# Altium schematic symbol library Driver_LED.SchLib: 93 symbols (part 1 of 2)
Pins are listed as number, name and electrical type; pins without a type are passive.

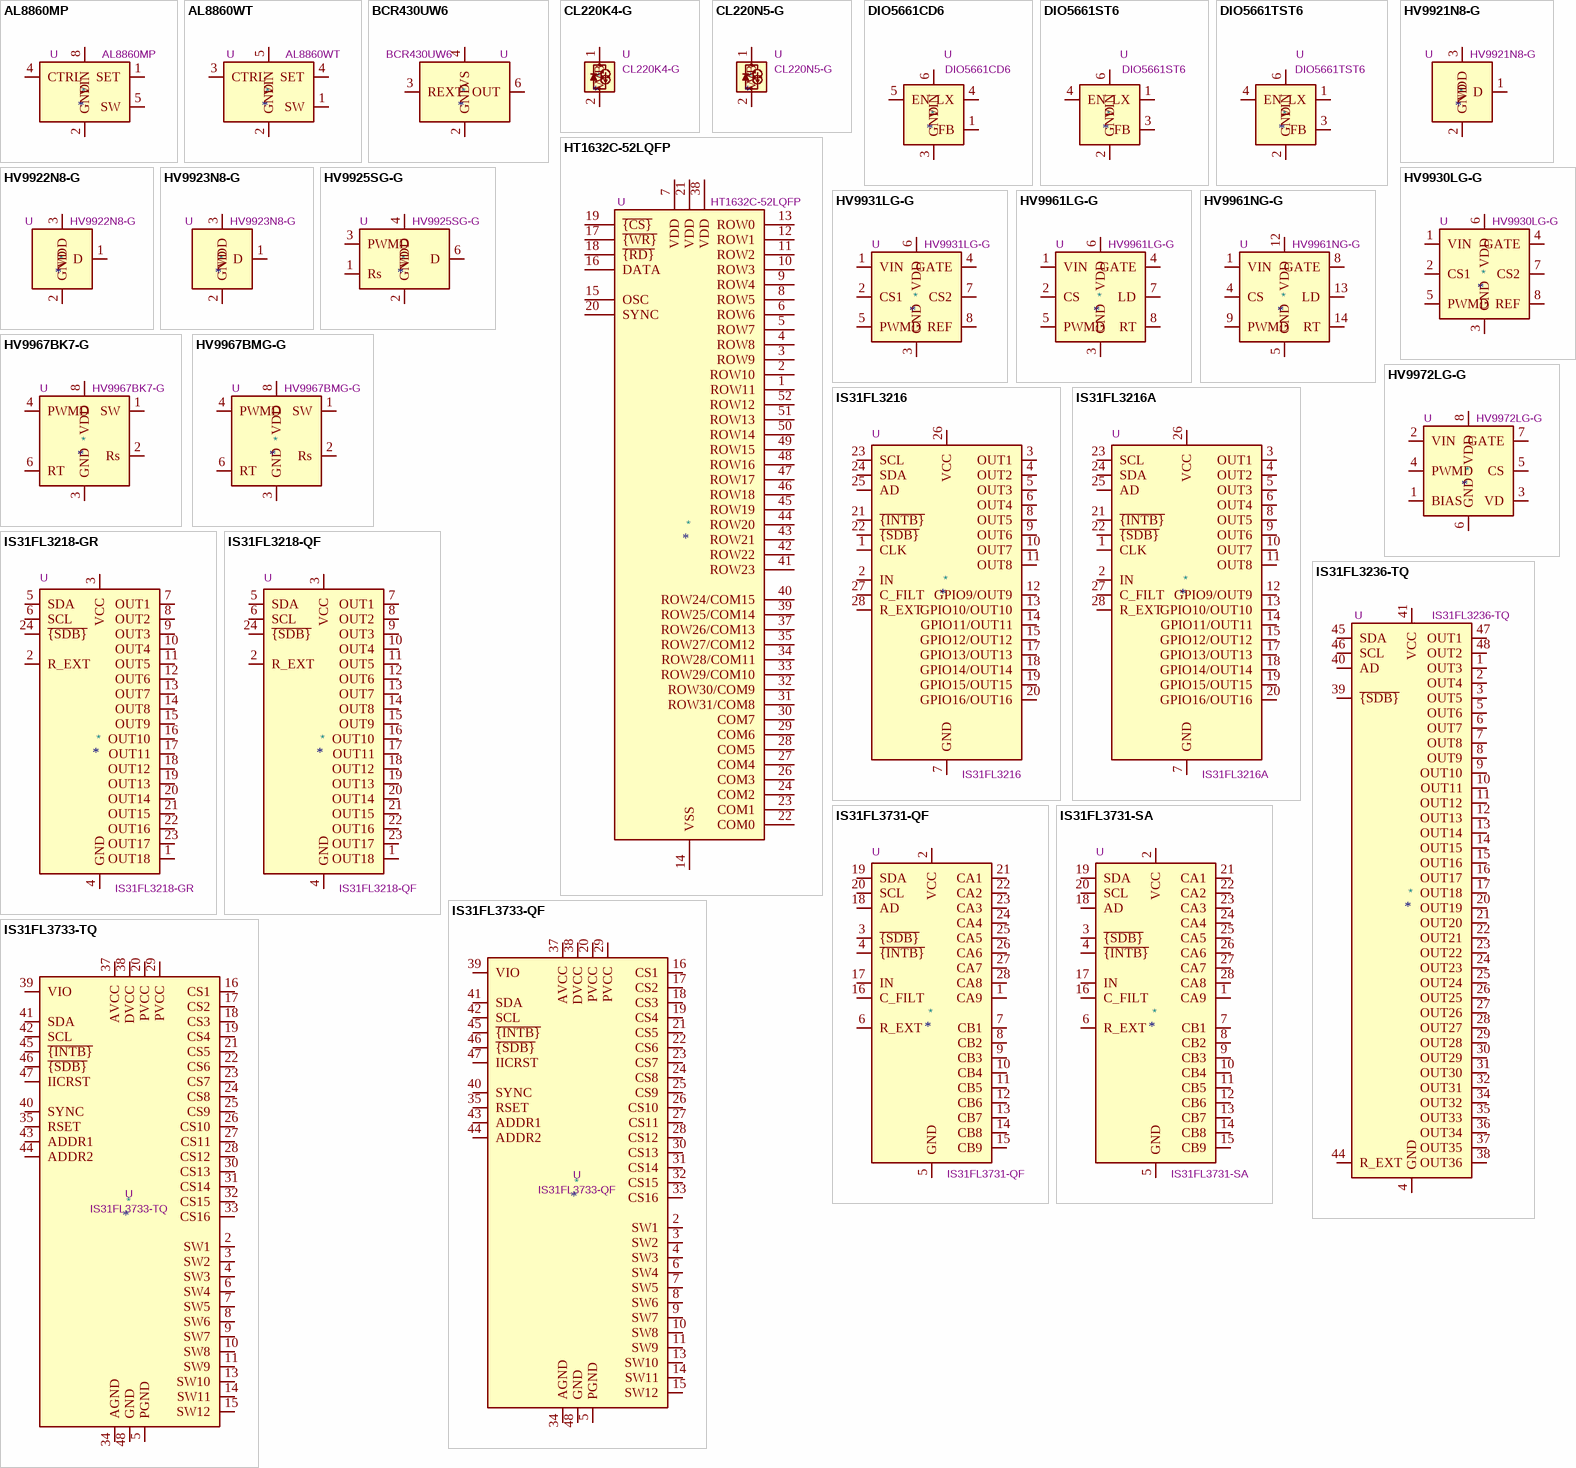
[diagram p0: symbols AL8860MP to IS31FL3733-TQ]

## AL8860MP
designator *  value AL8860MP  Reference: U
ki_keywords: LED Driver Buck Constant Current; ki_description: 40V 1.5A Constant Current Buck LED Driver IC, MSOP-8; ki_fp_filters: MSOP*1EP*3x3mm*P0.65mm*; Footprint: Package_SO:MSOP-8-1EP_3x3mm_P0.65mm_EP1.5x1.8mm; Datasheet: https://www.diodes.com/assets/Datasheets/AL8860.pdf
pins: 1 SET, 2 GND, 3 GND hidden, 4 CTRL, 5 SW, 6 SW hidden, 7 NC hidden, 8 VIN, 9 GND hidden

## AL8860WT
designator *  value AL8860WT  Reference: U
ki_keywords: LED Driver Buck Constant Current; ki_description: 40V 1.5A Constant Current Buck LED Driver IC, TSOT-23-5; ki_fp_filters: TSOT?23*; Footprint: Package_TO_SOT_SMD:TSOT-23-5; Datasheet: https://www.diodes.com/assets/Datasheets/AL8860.pdf
pins: 1 SW, 2 GND, 3 CTRL, 4 SET, 5 VIN

## BCR430UW6
designator *  value BCR430UW6  Reference: U
ki_keywords: LED driver constant current; ki_description: 100 mA adjustable constant current driver (linear), max 42V, SOT26 (SC-74); ki_fp_filters: SC?74*1.5x2.9mm?P0.95*; Footprint: Package_SO:SC-74-6_1.5x2.9mm_P0.95mm; Datasheet: https://www.diodes.com/assets/Datasheets/BCR430UW6.pdf
pins: 1 NC hidden, 2 GND, 3 REXT, 4 VS, 5 NC hidden, 6 OUT

## CL220K4-G
designator *  value CL220K4-G  Reference: U
ki_keywords: Constant Current LED Driver IC; ki_description: Temperature Compensated Constant Current LED IC, D-PAK; ki_fp_filters: TO?252*; Footprint: Package_TO_SOT_SMD:TO-252-2; Datasheet: http://ww1.microchip.com/downloads/en/DeviceDoc/20005413A.pdf
pins: 1 VA, 2 VB, 3 NC hidden

## CL220N5-G
designator *  value CL220N5-G  Reference: U
ki_keywords: Constant Current LED Driver IC; ki_description: Temperature Compensated Constant Current LED IC, TO-220; ki_fp_filters: TO?220*; Footprint: Package_TO_SOT_THT:TO-220-3_Vertical; Datasheet: http://ww1.microchip.com/downloads/en/DeviceDoc/20005413A.pdf
pins: 1 VA, 2 VB

## DIO5661CD6
designator *  value DIO5661CD6  Reference: U
ki_keywords: LED driver single; ki_description: 37V Step-up LED driver with PWM, 2.7-5.5Vin, 1.3A Iout max, DFN-6; ki_fp_filters: DFN*1EP*2x2mm*P0.65mm*; Footprint: Package_DFN_QFN:DFN-6-1EP_2x2mm_P0.65mm_EP1x1.6mm; Datasheet: http://www.dioo.com/uploads/product/20190311/e6c7f30c0fbe92fbfa6965c8ef1c5b19.pdf
pins: 1 FB, 2 hidden, 3 GND, 4 LX, 5 EN, 6 VIN, 7 GND hidden

## DIO5661ST6
designator *  value DIO5661ST6  Reference: U
ki_keywords: LED driver single; ki_description: 37V Step-up LED driver with PWM, 2.7-5.5Vin, 1.3A Iout max, SOT23-6; ki_fp_filters: SOT?23*; Footprint: Package_TO_SOT_SMD:SOT-23-6; Datasheet: http://www.dioo.com/uploads/product/20190311/e6c7f30c0fbe92fbfa6965c8ef1c5b19.pdf
pins: 1 LX, 2 GND, 3 FB, 4 EN, 5 hidden, 6 VIN

## DIO5661TST6
designator *  value DIO5661TST6  Reference: U
ki_keywords: LED driver single; ki_description: 37V Step-up LED driver with PWM, 2.7-5.5Vin, 1.3A Iout max, TSOT23-6; ki_fp_filters: TSOT?23*; Footprint: Package_TO_SOT_SMD:TSOT-23-6; Datasheet: http://www.dioo.com/uploads/product/20190311/e6c7f30c0fbe92fbfa6965c8ef1c5b19.pdf
pins: 1 LX, 2 GND, 3 FB, 4 EN, 5 hidden, 6 VIN

## HT1632C-52LQFP
designator *  value HT1632C-52LQFP  Reference: U
ki_keywords: LED Matrix Driver; ki_description: LED Matrix Driver, 32×8 or 24×16, 52-LQFP; ki_fp_filters: LQFP*14x14mm*P1mm*; Footprint: Package_QFP:LQFP-52_14x14mm_P1mm; Datasheet: http://www.holtek.com/documents/10179/116711/HT1632Cv170.pdf
pins: 1 ROW11, 2 ROW10, 3 ROW9, 4 ROW8, 5 ROW7, 6 ROW6, 7 VDD, 8 ROW5, 9 ROW4, 10 ROW3, 11 ROW2, 12 ROW1, 13 ROW0, 14 VSS, 15 OSC, 16 DATA, 17 ~{{WR}}, 18 ~{{RD}}, 19 ~{{CS}}, 20 SYNC, 21 VDD, 22 COM0, 23 COM1, 24 COM2, 25 VSS hidden, 26 COM3, 27 COM4, 28 COM5, 29 COM6, 30 COM7, 31 ROW31/COM8, 32 ROW30/COM9, 33 ROW29/COM10, 34 ROW28/COM11, 35 ROW27/COM12, 36 VSS hidden, 37 ROW26/COM13, 38 VDD, 39 ROW25/COM14, 40 ROW24/COM15, 41 ROW23, 42 ROW22, 43 ROW21, 44 ROW20, 45 ROW19, 46 ROW18, 47 ROW17, 48 ROW16, 49 ROW15, 50 ROW14, 51 ROW13, 52 ROW12

## HV9921N8-G
designator *  value HV9921N8-G  Reference: U
ki_keywords: CC LED Driver High Voltage; ki_description: 3pin Constant Current 20mA LED Driver, SOT89; ki_fp_filters: SOT?89*; Footprint: Package_TO_SOT_SMD:SOT-89-3; Datasheet: http://ww1.microchip.com/downloads/en/DeviceDoc/20005311A.pdf
pins: 1 D, 2 GND, 3 VDD

## HV9922N8-G
designator *  value HV9922N8-G  Reference: U
ki_keywords: CC LED Driver High Voltage; ki_description: 3pin Constant Current 50mA LED Driver, SOT89; ki_fp_filters: SOT?89*; Footprint: Package_TO_SOT_SMD:SOT-89-3; Datasheet: http://ww1.microchip.com/downloads/en/DeviceDoc/20005311A.pdf
pins: 1 D, 2 GND, 3 VDD

## HV9923N8-G
designator *  value HV9923N8-G  Reference: U
ki_keywords: CC LED Driver High Voltage; ki_description: 3pin Constant Current 30mA LED Driver, SOT89; ki_fp_filters: SOT?89*; Footprint: Package_TO_SOT_SMD:SOT-89-3; Datasheet: http://ww1.microchip.com/downloads/en/DeviceDoc/20005311A.pdf
pins: 1 D, 2 GND, 3 VDD

## HV9925SG-G
designator *  value HV9925SG-G  Reference: U
ki_keywords: Programmable Current LED Lamp Driver High Voltage; ki_description: Programmable Current LED Lamp Driver, SO8 w/Heat Slug; ki_fp_filters: SOIC*3.9x4.9mm*P1.27mm*; Footprint: Package_SO:SOIC-8_3.9x4.9mm_P1.27mm; Datasheet: http://ww1.microchip.com/downloads/en/DeviceDoc/hv9925.pdf
pins: 1 Rs, 2 GND, 3 PWMD, 4 VDD, 5 NC hidden, 6 D, 7 D hidden, 8 D hidden

## HV9930LG-G
designator *  value HV9930LG-G  Reference: U
ki_keywords: Buck-Boost LED Lamp Driver High Voltage; ki_description: Boost-Buck LED Lamp Driver, SO8; ki_fp_filters: SOIC*3.9x4.9mm*P1.27mm*; Footprint: Package_SO:SOIC-8_3.9x4.9mm_P1.27mm; Datasheet: http://ww1.microchip.com/downloads/en/DeviceDoc/hv9930.pdf
pins: 1 VIN, 2 CS1, 3 GND, 4 GATE, 5 PWMD, 6 VDD, 7 CS2, 8 REF

## HV9931LG-G
designator *  value HV9931LG-G  Reference: U
ki_keywords: Buck-Boost LED Lamp Driver High Voltage PFC; ki_description: PFC Boost-Buck LED Lamp Driver, SO8; ki_fp_filters: SOIC*3.9x4.9mm*P1.27mm*; Footprint: Package_SO:SOIC-8_3.9x4.9mm_P1.27mm; Datasheet: http://ww1.microchip.com/downloads/en/DeviceDoc/hv9931.pdf
pins: 1 VIN, 2 CS1, 3 GND, 4 GATE, 5 PWMD, 6 VDD, 7 CS2, 8 REF

## HV9961LG-G
designator *  value HV9961LG-G  Reference: U
ki_keywords: Buck LED Lamp Driver High Voltage Average CC; ki_description: Buck LED Lamp Driver Average-Mode Constant Current, SO8; ki_fp_filters: SOIC*3.9x4.9mm*P1.27mm*; Footprint: Package_SO:SOIC-8_3.9x4.9mm_P1.27mm; Datasheet: http://ww1.microchip.com/downloads/en/DeviceDoc/20005588A.pdf
pins: 1 VIN, 2 CS, 3 GND, 4 GATE, 5 PWMD, 6 VDD, 7 LD, 8 RT

## HV9961NG-G
designator *  value HV9961NG-G  Reference: U
ki_keywords: Buck LED Lamp Driver High Voltage Average CC; ki_description: Buck LED Lamp Driver Average-Mode Constant Current, SO16; ki_fp_filters: SOIC*3.9x9.9mm*P1.27mm*; Footprint: Package_SO:SOIC-16_3.9x9.9mm_P1.27mm; Datasheet: http://ww1.microchip.com/downloads/en/DeviceDoc/20005588A.pdf
pins: 1 VIN, 2 NC hidden, 3 NC hidden, 4 CS, 5 GND, 6 NC hidden, 7 NC hidden, 8 GATE, 9 PWMD, 10 NC hidden, 11 NC hidden, 12 VDD, 13 LD, 14 RT, 15 NC hidden, 16 NC hidden

## HV9967BK7-G
designator *  value HV9967BK7-G  Reference: U
ki_keywords: Buck LED Lamp Driver Low Voltage Average CC; ki_description: Buck LED Lamp Driver Average-Mode Constant Current, DFN8 (3x3mm); ki_fp_filters: DFN*1EP*3x3mm*P0.65mm*; Footprint: Package_DFN_QFN:DFN-8-1EP_3x3mm_P0.65mm_EP1.55x2.4mm; Datasheet: http://ww1.microchip.com/downloads/en/DeviceDoc/hv9967b.pdf
pins: 1 SW, 2 Rs, 3 GND, 4 PWMD, 6 RT, 7 GND hidden, 8 VDD, 9 GND hidden

## HV9967BMG-G
designator *  value HV9967BMG-G  Reference: U
ki_keywords: Buck LED Lamp Driver Low Voltage Average CC; ki_description: Buck LED Lamp Driver Average-Mode Constant Current, MSOP8; ki_fp_filters: MSOP*3x3mm*P0.65mm*; Footprint: Package_SO:MSOP-8_3x3mm_P0.65mm; Datasheet: http://ww1.microchip.com/downloads/en/devicedoc/hv9967b.pdf
pins: 1 SW, 2 Rs, 3 GND, 4 PWMD, 6 RT, 7 GND hidden, 8 VDD

## HV9972LG-G
designator *  value HV9972LG-G  Reference: U
ki_keywords: Isolated LED Lamp Driver High Voltage CC; ki_description: Isolated LED Lamp Driver Constant Current, SO8; ki_fp_filters: SOIC*3.9x4.9mm*P1.27mm*; Footprint: Package_SO:SOIC-8_3.9x4.9mm_P1.27mm; Datasheet: https://www.mouser.com/ds/2/268/HV9972-272498-1181261.pdf
pins: 1 BIAS, 2 VIN, 3 VD, 4 PWMD, 5 CS, 6 GND, 7 GATE, 8 VDD

## IS31FL3216
designator *  value IS31FL3216  Reference: U
ki_keywords: led pwm audio; ki_description: 16 channel LED controller with audio modulation mode, QFN-28; ki_fp_filters: QFN*1EP*4x4mm*P0.4mm*; Footprint: Package_DFN_QFN:QFN-28-1EP_4x4mm_P0.4mm_EP2.4x2.4mm; Datasheet: http://www.issi.com/WW/pdf/IS31FL3216.pdf
pins: 1 CLK, 2 IN, 3 OUT1, 4 OUT2, 5 OUT3, 6 OUT4, 7 GND, 8 OUT5, 9 OUT6, 10 OUT7, 11 OUT8, 12 GPIO9/OUT9, 13 GPIO10/OUT10, 14 GPIO11/OUT11, 15 GPIO12/OUT12, 16 GND hidden, 17 GPIO13/OUT13, 18 GPIO14/OUT14, 19 GPIO15/OUT15, 20 GPIO16/OUT16, 21 ~{{INTB}}, 22 ~{{SDB}}, 23 SCL, 24 SDA, 25 AD, 26 VCC, 27 C_FILT, 28 R_EXT, 29 GND hidden

## IS31FL3216A
designator *  value IS31FL3216A  Reference: U
ki_keywords: led pwm audio; ki_description: 16 channel LED controller with audio modulation mode, QFN-28; ki_fp_filters: QFN*1EP*4x4mm*P0.4mm*; Footprint: Package_DFN_QFN:QFN-28-1EP_4x4mm_P0.4mm_EP2.4x2.4mm; Datasheet: http://www.issi.com/WW/pdf/IS31FL3216A.pdf
pins: 1 CLK, 2 IN, 3 OUT1, 4 OUT2, 5 OUT3, 6 OUT4, 7 GND, 8 OUT5, 9 OUT6, 10 OUT7, 11 OUT8, 12 GPIO9/OUT9, 13 GPIO10/OUT10, 14 GPIO11/OUT11, 15 GPIO12/OUT12, 16 GND hidden, 17 GPIO13/OUT13, 18 GPIO14/OUT14, 19 GPIO15/OUT15, 20 GPIO16/OUT16, 21 ~{{INTB}}, 22 ~{{SDB}}, 23 SCL, 24 SDA, 25 AD, 26 VCC, 27 C_FILT, 28 R_EXT, 29 GND hidden

## IS31FL3218-GR
designator *  value IS31FL3218-GR  Reference: U
ki_keywords: led matrix pwm; ki_description: 18 LED matrix driver with 8-bit PWM, SOP-24; ki_fp_filters: SOP*7.5x15.4mm*P1.27mm*; Footprint: Package_SO:SOP-24_7.5x15.4mm_P1.27mm; Datasheet: http://www.issi.com/WW/pdf/31FL3218.pdf
pins: 1 OUT18, 2 R_EXT, 3 VCC, 4 GND, 5 SDA, 6 SCL, 7 OUT1, 8 OUT2, 9 OUT3, 10 OUT4, 11 OUT5, 12 OUT6, 13 OUT7, 14 OUT8, 15 OUT9, 16 OUT10, 17 OUT11, 18 OUT12, 19 OUT13, 20 OUT14, 21 OUT15, 22 OUT16, 23 OUT17, 24 ~{{SDB}}

## IS31FL3218-QF
designator *  value IS31FL3218-QF  Reference: U
ki_keywords: led matrix pwm; ki_description: 18 LED matrix driver with 8-bit PWM, QFN-24; ki_fp_filters: QFN*1EP*4x4mm*P0.5mm*; Footprint: Package_DFN_QFN:QFN-24-1EP_4x4mm_P0.5mm_EP2.7x2.7mm; Datasheet: http://www.issi.com/WW/pdf/31FL3218.pdf
pins: 1 OUT18, 2 R_EXT, 3 VCC, 4 GND, 5 SDA, 6 SCL, 7 OUT1, 8 OUT2, 9 OUT3, 10 OUT4, 11 OUT5, 12 OUT6, 13 OUT7, 14 OUT8, 15 OUT9, 16 OUT10, 17 OUT11, 18 OUT12, 19 OUT13, 20 OUT14, 21 OUT15, 22 OUT16, 23 OUT17, 24 ~{{SDB}}, 25 GND hidden

## IS31FL3236-TQ
designator *  value IS31FL3236-TQ  Reference: U
ki_keywords: led matrix pwm; ki_description: 36 LED matrix driver with 8-bit PWM, eTQFP-48; ki_fp_filters: TQFP*1EP*7x7mm*P0.5mm*; Footprint: Package_QFP:TQFP-48-1EP_7x7mm_P0.5mm_EP4.11x4.11mm; Datasheet: https://www.lumissil.com/assets/pdf/core/IS31FL3236_DS.pdf
pins: 1 OUT3, 2 OUT4, 3 OUT5, 4 GND, 5 OUT6, 6 OUT7, 7 OUT8, 8 OUT9, 9 OUT10, 10 OUT11, 11 OUT12, 12 OUT13, 13 OUT14, 14 OUT15, 15 OUT16, 16 OUT17, 17 OUT18, 18 GND hidden, 19 GND hidden, 20 OUT19, 21 OUT20, 22 OUT21, 23 OUT22, 24 OUT23, 25 OUT24, 26 OUT25, 27 OUT26, 28 OUT27, 29 OUT28, 30 OUT29, 31 OUT30, 32 OUT31, 33 GND hidden, 34 OUT32, 35 OUT33, 36 OUT34, 37 OUT35, 38 OUT36, 39 ~{{SDB}}, 40 AD, 41 VCC, 42 GND hidden, 43 GND hidden, 44 R_EXT, 45 SDA, 46 SCL, 47 OUT1, 48 OUT2, 49 GND hidden

## IS31FL3731-QF
designator *  value IS31FL3731-QF  Reference: U
ki_keywords: led matrix pwm; ki_description: 9x16 LED matrix driver with 8-bit PWM and breathing, QFN-28; ki_fp_filters: QFN*1EP*4x4mm*P0.4mm*; Footprint: Package_DFN_QFN:QFN-28-1EP_4x4mm_P0.4mm_EP2.3x2.3mm; Datasheet: http://www.issi.com/WW/pdf/31FL3731.pdf
pins: 1 CA9, 2 VCC, 3 ~{{SDB}}, 4 ~{{INTB}}, 5 GND, 6 R_EXT, 7 CB1, 8 CB2, 9 CB3, 10 CB4, 11 CB5, 12 CB6, 13 CB7, 14 CB8, 15 CB9, 16 C_FILT, 17 IN, 18 AD, 19 SDA, 20 SCL, 21 CA1, 22 CA2, 23 CA3, 24 CA4, 25 CA5, 26 CA6, 27 CA7, 28 CA8, 29 GND hidden

## IS31FL3731-SA
designator *  value IS31FL3731-SA  Reference: U
ki_keywords: led matrix pwm; ki_description: 9x16 LED matrix driver with 8-bit PWM and breathing, SSOP-28; ki_fp_filters: SSOP*5.3x10.2mm*P0.65mm*; Footprint: Package_SO:SSOP-28_5.3x10.2mm_P0.65mm; Datasheet: http://www.issi.com/WW/pdf/31FL3731.pdf
pins: 1 CA9, 2 VCC, 3 ~{{SDB}}, 4 ~{{INTB}}, 5 GND, 6 R_EXT, 7 CB1, 8 CB2, 9 CB3, 10 CB4, 11 CB5, 12 CB6, 13 CB7, 14 CB8, 15 CB9, 16 C_FILT, 17 IN, 18 AD, 19 SDA, 20 SCL, 21 CA1, 22 CA2, 23 CA3, 24 CA4, 25 CA5, 26 CA6, 27 CA7, 28 CA8

## IS31FL3733-QF
designator *  value IS31FL3733-QF  Reference: U
ki_keywords: led matrix pwm; ki_description: 12x16 LED matrix driver with 8-bit PWM and breathing, QFN-48; ki_fp_filters: QFN*1EP*6x6mm*P0.4mm*; Footprint: Package_DFN_QFN:QFN-48-1EP_6x6mm_P0.4mm_EP4.2x4.2mm; Datasheet: http://www.issi.com/WW/pdf/IS31FL3733.pdf
pins: 1 NC hidden, 2 SW1, 3 SW2, 4 SW3, 5 PGND, 6 SW4, 7 SW5, 8 SW6, 9 SW7, 10 SW8, 11 SW9, 12 PGND hidden, 13 SW10, 14 SW11, 15 SW12, 16 CS1, 17 CS2, 18 CS3, 19 CS4, 20 PVCC, 21 CS5, 22 CS6, 23 CS7, 24 CS8, 25 CS9, 26 CS10, 27 CS11, 28 CS12, 29 PVCC, 30 CS13, 31 CS14, 32 CS15, 33 CS16, 34 AGND, 35 RSET, 36 NC hidden, 37 AVCC, 38 DVCC, 39 VIO, 40 SYNC, 41 SDA, 42 SCL, 43 ADDR1, 44 ADDR2, 45 ~{{INTB}}, 46 ~{{SDB}}, 47 IICRST, 48 GND, 49 GND hidden

## IS31FL3733-TQ
designator *  value IS31FL3733-TQ  Reference: U
ki_keywords: led matrix pwm; ki_description: 12x16 LED matrix driver with 8-bit PWM and breathing, TQFP-48; ki_fp_filters: TQFP*1EP*7x7mm*P0.5mm*; Footprint: Package_QFP:TQFP-48-1EP_7x7mm_P0.5mm_EP5x5mm; Datasheet: http://www.issi.com/WW/pdf/IS31FL3733.pdf
pins: 1 NC hidden, 2 SW1, 3 SW2, 4 SW3, 5 PGND, 6 SW4, 7 SW5, 8 SW6, 9 SW7, 10 SW8, 11 SW9, 12 PGND hidden, 13 SW10, 14 SW11, 15 SW12, 16 CS1, 17 CS2, 18 CS3, 19 CS4, 20 PVCC, 21 CS5, 22 CS6, 23 CS7, 24 CS8, 25 CS9, 26 CS10, 27 CS11, 28 CS12, 29 PVCC, 30 CS13, 31 CS14, 32 CS15, 33 CS16, 34 AGND, 35 RSET, 36 NC hidden, 37 AVCC, 38 DVCC, 39 VIO, 40 SYNC, 41 SDA, 42 SCL, 43 ADDR1, 44 ADDR2, 45 ~{{INTB}}, 46 ~{{SDB}}, 47 IICRST, 48 GND, 49 GND hidden

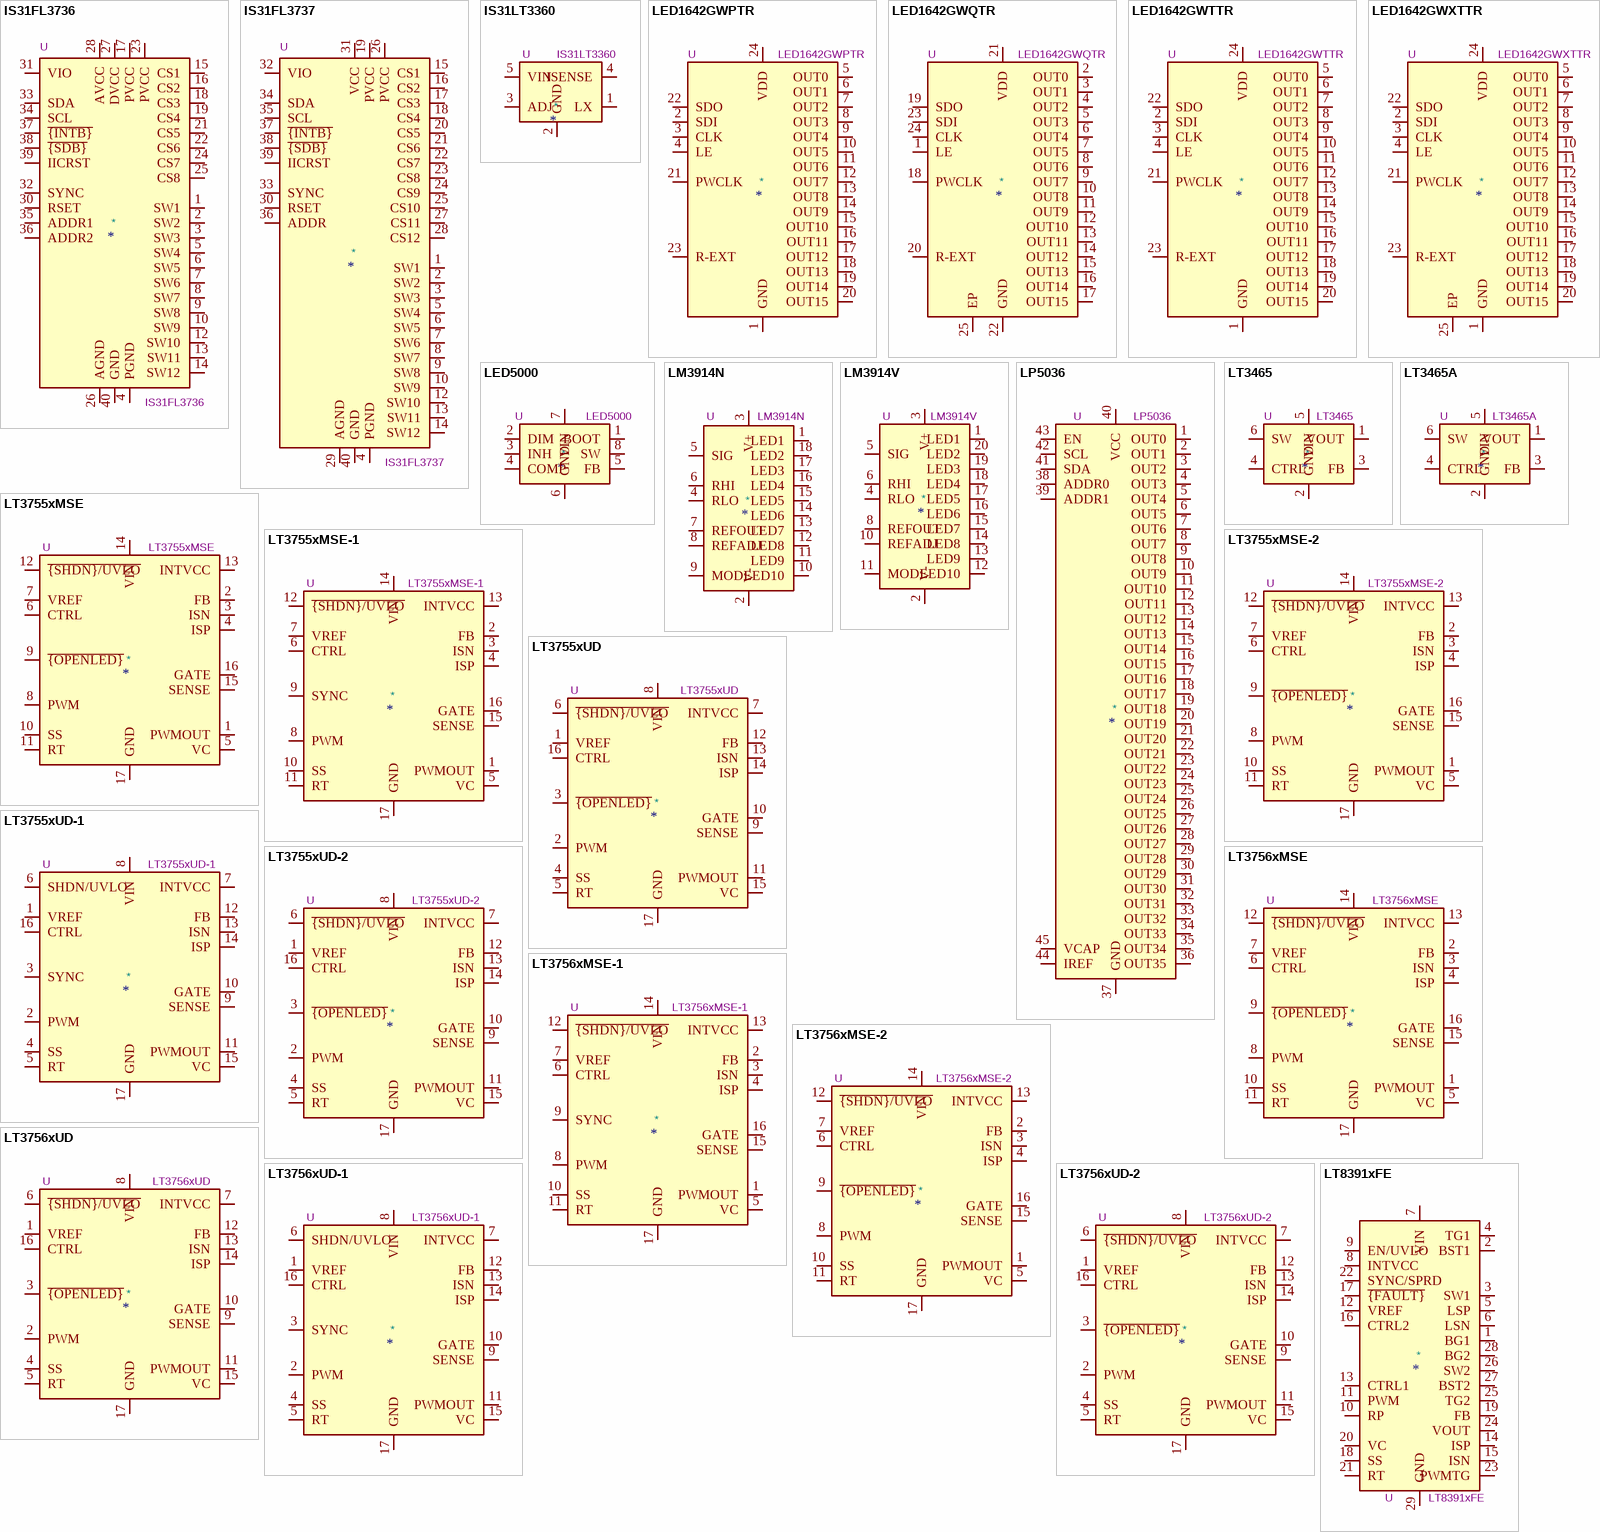
[diagram p1: symbols IS31FL3736 to LT8391xFE]

## IS31FL3736
designator *  value IS31FL3736  Reference: U
ki_keywords: led matrix pwm; ki_description: 12x8 LED matrix driver with 8-bit PWM and breathing, QFN-40; ki_fp_filters: QFN*1EP*5x5mm*P0.4mm*; Footprint: Package_DFN_QFN:QFN-40-1EP_5x5mm_P0.4mm_EP3.8x3.8mm; Datasheet: http://www.issi.com/WW/pdf/31FL3736.pdf
pins: 1 SW1, 2 SW2, 3 SW3, 4 PGND, 5 SW4, 6 SW5, 7 SW6, 8 SW7, 9 SW8, 10 SW9, 11 PGND hidden, 12 SW10, 13 SW11, 14 SW12, 15 CS1, 16 CS2, 17 PVCC, 18 CS3, 19 CS4, 20 NC hidden, 21 CS5, 22 CS6, 23 PVCC, 24 CS7, 25 CS8, 26 AGND, 27 DVCC, 28 AVCC, 29 NC hidden, 30 RSET, 31 VIO, 32 SYNC, 33 SDA, 34 SCL, 35 ADDR1, 36 ADDR2, 37 ~{{INTB}}, 38 ~{{SDB}}, 39 IICRST, 40 GND, 41 GND hidden

## IS31FL3737
designator *  value IS31FL3737  Reference: U
ki_keywords: led matrix pwm; ki_description: 12x12 LED matrix driver with 8-bit PWM and breathing, QFN-40; ki_fp_filters: QFN*1EP*5x5mm*P0.4mm*; Footprint: Package_DFN_QFN:QFN-40-1EP_5x5mm_P0.4mm_EP3.8x3.8mm; Datasheet: http://www.issi.com/WW/pdf/31FL3737.pdf
pins: 1 SW1, 2 SW2, 3 SW3, 4 PGND, 5 SW4, 6 SW5, 7 SW6, 8 SW7, 9 SW8, 10 SW9, 11 PGND hidden, 12 SW10, 13 SW11, 14 SW12, 15 CS1, 16 CS2, 17 CS3, 18 CS4, 19 PVCC, 20 CS5, 21 CS6, 22 CS7, 23 CS8, 24 CS9, 25 CS10, 26 PVCC, 27 CS11, 28 CS12, 29 AGND, 30 RSET, 31 VCC, 32 VIO, 33 SYNC, 34 SDA, 35 SCL, 36 ADDR, 37 ~{{INTB}}, 38 ~{{SDB}}, 39 IICRST, 40 GND, 41 GND hidden

## IS31LT3360
designator *  value IS31LT3360  Reference: U
ki_keywords: Switching LED driver; ki_description: Constant current  LED driver, internal switch, up to 40V/1.2A, SOT-89-5; ki_fp_filters: SOT?89*; Footprint: Package_TO_SOT_SMD:SOT-89-5; Datasheet: http://www.issi.com/WW/pdf/31LT3360.pdf
pins: 1 LX, 2 GND, 3 ADJ, 4 ISENSE, 5 VIN

## LED1642GWPTR
designator *  value LED1642GWPTR  Reference: U
ki_keywords: PWM LED driver error detection brightness QSOP-24; ki_description: 16-channel LED driver with error detection, current gain control and 12/16 bit PWM brightness control, QSOP-24; ki_fp_filters: QSOP*3.9x8.7mm*P0.635mm*; Footprint: Package_SO:QSOP-24_3.9x8.7mm_P0.635mm; Datasheet: https://www.st.com/resource/en/datasheet/led1642gw.pdf
pins: 1 GND, 2 SDI, 3 CLK, 4 LE, 5 OUT0, 6 OUT1, 7 OUT2, 8 OUT3, 9 OUT4, 10 OUT5, 11 OUT6, 12 OUT7, 13 OUT8, 14 OUT9, 15 OUT10, 16 OUT11, 17 OUT12, 18 OUT13, 19 OUT14, 20 OUT15, 21 PWCLK, 22 SDO, 23 R-EXT, 24 VDD

## LED1642GWQTR
designator *  value LED1642GWQTR  Reference: U
ki_keywords: PWM LED driver error detection brightness QFN-24; ki_description: 16-channel LED driver with error detection, current gain control and 12/16 bit PWM brightness control, QFN-24; ki_fp_filters: QFN*1EP*4x4mm*P0.5mm*; Footprint: Package_DFN_QFN:QFN-24-1EP_4x4mm_P0.5mm_EP2.15x2.15mm; Datasheet: https://www.st.com/resource/en/datasheet/led1642gw.pdf
pins: 1 LE, 2 OUT0, 3 OUT1, 4 OUT2, 5 OUT3, 6 OUT4, 7 OUT5, 8 OUT6, 9 OUT7, 10 OUT8, 11 OUT9, 12 OUT10, 13 OUT11, 14 OUT12, 15 OUT13, 16 OUT14, 17 OUT15, 18 PWCLK, 19 SDO, 20 R-EXT, 21 VDD, 22 GND, 23 SDI, 24 CLK, 25 EP

## LED1642GWTTR
designator *  value LED1642GWTTR  Reference: U
ki_keywords: PWM LED driver error detection brightness TSSOP-24; ki_description: 16-channel LED driver with error detection, current gain control and 12/16 bit PWM brightness control, TSSOP-24; ki_fp_filters: TSSOP*4.4x7.8mm*P0.65mm*; Footprint: Package_SO:TSSOP-24_4.4x7.8mm_P0.65mm; Datasheet: https://www.st.com/resource/en/datasheet/led1642gw.pdf
pins: 1 GND, 2 SDI, 3 CLK, 4 LE, 5 OUT0, 6 OUT1, 7 OUT2, 8 OUT3, 9 OUT4, 10 OUT5, 11 OUT6, 12 OUT7, 13 OUT8, 14 OUT9, 15 OUT10, 16 OUT11, 17 OUT12, 18 OUT13, 19 OUT14, 20 OUT15, 21 PWCLK, 22 SDO, 23 R-EXT, 24 VDD

## LED1642GWXTTR
designator *  value LED1642GWXTTR  Reference: U
ki_keywords: PWM LED driver error detection brightness TSSOP-24; ki_description: 16-channel LED driver with error detection, current gain control and 12/16 bit PWM brightness control, TSSOP-24; ki_fp_filters: TSSOP*1EP*4.4x7.8mm*P0.65mm*; Footprint: Package_SO:TSSOP-24-1EP_4.4x7.8mm_P0.65mm_EP3.2x5mm; Datasheet: https://www.st.com/resource/en/datasheet/led1642gw.pdf
pins: 1 GND, 2 SDI, 3 CLK, 4 LE, 5 OUT0, 6 OUT1, 7 OUT2, 8 OUT3, 9 OUT4, 10 OUT5, 11 OUT6, 12 OUT7, 13 OUT8, 14 OUT9, 15 OUT10, 16 OUT11, 17 OUT12, 18 OUT13, 19 OUT14, 20 OUT15, 21 PWCLK, 22 SDO, 23 R-EXT, 24 VDD, 25 EP

## LED5000
designator *  value LED5000  Reference: U
ki_keywords: LED buck driver; ki_description: 3A monolithic step-down current source with dimming, HSOP-8; ki_fp_filters: HSOP*1EP*3.9x4.9mm*P1.27mm*; Footprint: Package_SO:HSOP-8-1EP_3.9x4.9mm_P1.27mm_EP2.41x3.1mm; Datasheet: https://www.st.com/resource/en/datasheet/led5000.pdf
pins: 1 BOOT, 2 DIM, 3 INH, 4 COMP, 5 FB, 6 GND, 7 VIN, 8 SW, 9 GND hidden

## LM3914N
designator *  value LM3914N  Reference: U
ki_keywords: LED driver bar dot; ki_description: 10 LED Dot/Bar Display Driver, DIP-18; ki_fp_filters: DIP*W7.62mm*; Footprint: Package_DIP:DIP-18_W7.62mm; Datasheet: https://www.ti.com/lit/ds/symlink/lm3914.pdf
pins: 1 LED1, 2 V-, 3 V+, 4 RLO, 5 SIG, 6 RHI, 7 REFOUT, 8 REFADJ, 9 MODE, 10 LED10, 11 LED9, 12 LED8, 13 LED7, 14 LED6, 15 LED5, 16 LED4, 17 LED3, 18 LED2

## LM3914V
designator *  value LM3914V  Reference: U
ki_keywords: LED driver bar dot; ki_description: 10 LED Dot/Bar Display Driver, PLCC-20; ki_fp_filters: PLCC*; Footprint: Package_LCC:PLCC-20; Datasheet: https://www.ti.com/lit/ds/symlink/lm3914.pdf
pins: 1 LED1, 2 V-, 3 V+, 4 RLO, 5 SIG, 6 RHI, 7 NC hidden, 8 REFOUT, 9 NC hidden, 10 REFADJ, 11 MODE, 12 LED10, 13 LED9, 14 LED8, 15 LED7, 16 LED6, 17 LED5, 18 LED4, 19 LED3, 20 LED2

## LP5036
designator *  value LP5036  Reference: U
ki_keywords: PWM LED driver I2C; ki_description: 36-Channel 12-Bit PWM Ultra-low Quiescent Current I2C RGB LED Driver; ki_fp_filters: VQFN?46?1EP?5x6mm?P0.4mm?EP2.8x3.8mm*; Footprint: Package_DFN_QFN:VQFN-46-1EP_5x6mm_P0.4mm_EP2.8x3.8mm; Datasheet: http://www.ti.com/lit/ds/symlink/lp5036.pdf
pins: 1 OUT0, 2 OUT1, 3 OUT2, 4 OUT3, 5 OUT4, 6 OUT5, 7 OUT6, 8 OUT7, 9 OUT8, 10 OUT9, 11 OUT10, 12 OUT11, 13 OUT12, 14 OUT13, 15 OUT14, 16 OUT15, 17 OUT16, 18 OUT17, 19 OUT18, 20 OUT19, 21 OUT20, 22 OUT21, 23 OUT22, 24 OUT23, 25 OUT24, 26 OUT25, 27 OUT26, 28 OUT27, 29 OUT28, 30 OUT29, 31 OUT30, 32 OUT31, 33 OUT32, 34 OUT33, 35 OUT34, 36 OUT35, 37 GND, 38 ADDR0, 39 ADDR1, 40 VCC, 41 SDA, 42 SCL, 43 EN, 44 IREF, 45 VCAP, 46 GND hidden, 47 GND hidden

## LT3465
designator *  value LT3465  Reference: U
ki_keywords: Switching LED driver; ki_description: 1.2MHz White LED Drivers with Built-in Schottky, ThinSOT-23-6; ki_fp_filters: TSOT?23*; Footprint: Package_TO_SOT_SMD:TSOT-23-6; Datasheet: https://www.analog.com/media/en/technical-documentation/data-sheets/3465fa.pdf
pins: 1 VOUT, 2 GND, 3 FB, 4 CTRL, 5 VIN, 6 SW

## LT3465A
designator *  value LT3465A  Reference: U
ki_keywords: Switching LED driver; ki_description: 2.4MHz White LED Drivers with Built-in Schottky in ThinSOT; ki_fp_filters: TSOT?23*; Footprint: Package_TO_SOT_SMD:TSOT-23-6; Datasheet: https://www.analog.com/media/en/technical-documentation/data-sheets/3465fa.pdf
pins: 1 VOUT, 2 GND, 3 FB, 4 CTRL, 5 VIN, 6 SW

## LT3755xMSE
designator *  value LT3755xMSE  Reference: U
ki_keywords: Boost Buck Buck-Boost SEPIC Flyback; ki_description: 40 Vin, 75 Vout, DC/DC LED Controllers, Hysteresis Open led Status pin, MSOP-16; ki_fp_filters: MSOP*3x4mm*P0.5mm*; Footprint: Package_SO:MSOP-16-1EP_3x4mm_P0.5mm_EP1.65x2.85mm; Datasheet: https://www.analog.com/media/en/technical-documentation/data-sheets/37551fd.pdf
pins: 1 PWMOUT, 2 FB, 3 ISN, 4 ISP, 5 VC, 6 CTRL, 7 VREF, 8 PWM, 9 ~{{OPENLED}}, 10 SS, 11 RT, 12 ~{{SHDN}/UVLO}, 13 INTVCC, 14 VIN, 15 SENSE, 16 GATE, 17 GND

## LT3755xMSE-1
designator *  value LT3755xMSE-1  Reference: U
ki_keywords: Boost Buck Buck-Boost SEPIC Flyback; ki_description: 40 Vin, 75 Vout, DC/DC LED Controllers, Frequency Synchronisation, MSOP-16; ki_fp_filters: MSOP*3x4mm*P0.5mm*; Footprint: Package_SO:MSOP-16-1EP_3x4mm_P0.5mm_EP1.65x2.85mm; Datasheet: https://www.analog.com/media/en/technical-documentation/data-sheets/37551fd.pdf
pins: 1 PWMOUT, 2 FB, 3 ISN, 4 ISP, 5 VC, 6 CTRL, 7 VREF, 8 PWM, 9 SYNC, 10 SS, 11 RT, 12 ~{{SHDN}/UVLO}, 13 INTVCC, 14 VIN, 15 SENSE, 16 GATE, 17 GND

## LT3755xMSE-2
designator *  value LT3755xMSE-2  Reference: U
ki_keywords: Boost Buck Buck-Boost SEPIC Flyback; ki_description: 40 Vin, 75 Vout, DC/DC LED Controllers, Improved Open Led Status Pin, MSOP-16; ki_fp_filters: MSOP*3x4mm*P0.5mm*; Footprint: Package_SO:MSOP-16-1EP_3x4mm_P0.5mm_EP1.65x2.85mm; Datasheet: https://www.analog.com/media/en/technical-documentation/data-sheets/37551fd.pdf
pins: 1 PWMOUT, 2 FB, 3 ISN, 4 ISP, 5 VC, 6 CTRL, 7 VREF, 8 PWM, 9 ~{{OPENLED}}, 10 SS, 11 RT, 12 ~{{SHDN}/UVLO}, 13 INTVCC, 14 VIN, 15 SENSE, 16 GATE, 17 GND

## LT3755xUD
designator *  value LT3755xUD  Reference: U
ki_keywords: Boost Buck Buck-Boost SEPIC Flyback; ki_description: 40 Vin, 75 Vout, DC/DC LED Controller, Hysteresis Open led Status pins, QFN-16; ki_fp_filters: QFN*1EP*3x3mm*P0.5mm*; Footprint: Package_DFN_QFN:QFN-16-1EP_3x3mm_P0.5mm_EP1.45x1.45mm; Datasheet: https://www.analog.com/media/en/technical-documentation/data-sheets/37551fd.pdf
pins: 1 VREF, 2 PWM, 3 ~{{OPENLED}}, 4 SS, 5 RT, 6 ~{{SHDN}/UVLO}, 7 INTVCC, 8 VIN, 9 SENSE, 10 GATE, 11 PWMOUT, 12 FB, 13 ISN, 14 ISP, 15 VC, 16 CTRL, 17 GND

## LT3755xUD-1
designator *  value LT3755xUD-1  Reference: U
ki_keywords: Boost Buck Buck-Boost SEPIC Flyback; ki_description: 40 Vin, 75 Vout, DC/DC LED Controllers, Frequency Synchronisation, QFN-16; ki_fp_filters: QFN*1EP*3x3mm*P0.5mm*; Footprint: Package_DFN_QFN:QFN-16-1EP_3x3mm_P0.5mm_EP1.45x1.45mm; Datasheet: https://www.analog.com/media/en/technical-documentation/data-sheets/37551fd.pdf
pins: 1 VREF, 2 PWM, 3 SYNC, 4 SS, 5 RT, 6 SHDN/UVLO, 7 INTVCC, 8 VIN, 9 SENSE, 10 GATE, 11 PWMOUT, 12 FB, 13 ISN, 14 ISP, 15 VC, 16 CTRL, 17 GND

## LT3755xUD-2
designator *  value LT3755xUD-2  Reference: U
ki_keywords: Boost Buck Buck-Boost SEPIC Flyback; ki_description: 40 Vin, 75 Vout, DC/DC LED Controllers, Improved Open led Status pin, QFN-16; ki_fp_filters: QFN*1EP*3x3mm*P0.5mm*; Footprint: Package_DFN_QFN:QFN-16-1EP_3x3mm_P0.5mm_EP1.45x1.45mm; Datasheet: https://www.analog.com/media/en/technical-documentation/data-sheets/37551fd.pdf
pins: 1 VREF, 2 PWM, 3 ~{{OPENLED}}, 4 SS, 5 RT, 6 ~{{SHDN}/UVLO}, 7 INTVCC, 8 VIN, 9 SENSE, 10 GATE, 11 PWMOUT, 12 FB, 13 ISN, 14 ISP, 15 VC, 16 CTRL, 17 GND

## LT3756xMSE
designator *  value LT3756xMSE  Reference: U
ki_keywords: Boost Buck Buck-Boost SEPIC Flyback; ki_description: 100 Vin, 100 Vout, DC/DC LED Controllers, Hysteresis Open led Status pin, MSOP-16; ki_fp_filters: MSOP*3x4mm*P0.5mm*; Footprint: Package_SO:MSOP-16-1EP_3x4mm_P0.5mm_EP1.65x2.85mm; Datasheet: https://www.analog.com/media/en/technical-documentation/data-sheets/375612fb.pdf
pins: 1 PWMOUT, 2 FB, 3 ISN, 4 ISP, 5 VC, 6 CTRL, 7 VREF, 8 PWM, 9 ~{{OPENLED}}, 10 SS, 11 RT, 12 ~{{SHDN}/UVLO}, 13 INTVCC, 14 VIN, 15 SENSE, 16 GATE, 17 GND

## LT3756xMSE-1
designator *  value LT3756xMSE-1  Reference: U
ki_keywords: Boost Buck Buck-Boost SEPIC Flyback; ki_description: 100 Vin, 100 Vout, DC/DC LED Controllers, Frequency Synchronisation, MSOP-16; ki_fp_filters: MSOP*3x4mm*P0.5mm*; Footprint: Package_SO:MSOP-16-1EP_3x4mm_P0.5mm_EP1.65x2.85mm; Datasheet: https://www.analog.com/media/en/technical-documentation/data-sheets/375612fb.pdf
pins: 1 PWMOUT, 2 FB, 3 ISN, 4 ISP, 5 VC, 6 CTRL, 7 VREF, 8 PWM, 9 SYNC, 10 SS, 11 RT, 12 ~{{SHDN}/UVLO}, 13 INTVCC, 14 VIN, 15 SENSE, 16 GATE, 17 GND

## LT3756xMSE-2
designator *  value LT3756xMSE-2  Reference: U
ki_keywords: Boost Buck Buck-Boost SEPIC Flyback; ki_description: 100 Vin, 100 Vout, DC/DC LED Controllers, Improved Open Led Status Pin, MSOP-16; ki_fp_filters: MSOP*3x4mm*P0.5mm*; Footprint: Package_SO:MSOP-16-1EP_3x4mm_P0.5mm_EP1.65x2.85mm; Datasheet: https://www.analog.com/media/en/technical-documentation/data-sheets/375612fb.pdf
pins: 1 PWMOUT, 2 FB, 3 ISN, 4 ISP, 5 VC, 6 CTRL, 7 VREF, 8 PWM, 9 ~{{OPENLED}}, 10 SS, 11 RT, 12 ~{{SHDN}/UVLO}, 13 INTVCC, 14 VIN, 15 SENSE, 16 GATE, 17 GND

## LT3756xUD
designator *  value LT3756xUD  Reference: U
ki_keywords: Boost Buck Buck-Boost SEPIC Flyback; ki_description: 100 Vin, 100 Vout, DC/DC LED Controller, Hysteresis Open led Status pins, QFN-16; ki_fp_filters: QFN*1EP*3x3mm*P0.5mm*; Footprint: Package_DFN_QFN:QFN-16-1EP_3x3mm_P0.5mm_EP1.45x1.45mm; Datasheet: https://www.analog.com/media/en/technical-documentation/data-sheets/375612fb.pdf
pins: 1 VREF, 2 PWM, 3 ~{{OPENLED}}, 4 SS, 5 RT, 6 ~{{SHDN}/UVLO}, 7 INTVCC, 8 VIN, 9 SENSE, 10 GATE, 11 PWMOUT, 12 FB, 13 ISN, 14 ISP, 15 VC, 16 CTRL, 17 GND

## LT3756xUD-1
designator *  value LT3756xUD-1  Reference: U
ki_keywords: Boost Buck Buck-Boost SEPIC Flyback; ki_description: 100 Vin, 100 Vout, DC/DC LED Controllers, Frequency Synchronisation, QFN-16; ki_fp_filters: QFN*1EP*3x3mm*P0.5mm*; Footprint: Package_DFN_QFN:QFN-16-1EP_3x3mm_P0.5mm_EP1.45x1.45mm; Datasheet: https://www.analog.com/media/en/technical-documentation/data-sheets/375612fb.pdf
pins: 1 VREF, 2 PWM, 3 SYNC, 4 SS, 5 RT, 6 SHDN/UVLO, 7 INTVCC, 8 VIN, 9 SENSE, 10 GATE, 11 PWMOUT, 12 FB, 13 ISN, 14 ISP, 15 VC, 16 CTRL, 17 GND

## LT3756xUD-2
designator *  value LT3756xUD-2  Reference: U
ki_keywords: Boost Buck Buck-Boost SEPIC Flyback; ki_description: 100 Vin, 100 Vout, DC/DC LED Controllers, Improved Open led Status pin, QFN-16; ki_fp_filters: QFN*1EP*3x3mm*P0.5mm*; Footprint: Package_DFN_QFN:QFN-16-1EP_3x3mm_P0.5mm_EP1.45x1.45mm; Datasheet: https://www.analog.com/media/en/technical-documentation/data-sheets/375612fb.pdf
pins: 1 VREF, 2 PWM, 3 ~{{OPENLED}}, 4 SS, 5 RT, 6 ~{{SHDN}/UVLO}, 7 INTVCC, 8 VIN, 9 SENSE, 10 GATE, 11 PWMOUT, 12 FB, 13 ISN, 14 ISP, 15 VC, 16 CTRL, 17 GND

## LT8391xFE
designator *  value LT8391xFE  Reference: U
ki_keywords: 60V Synchronous 4-Switch Buck-Boost LED Controller; ki_description: 60V Synchronous 4-Switch Buck-Boost LED Controller, TSSOP-28; ki_fp_filters: TSSOP*1EP*4.4x9.7mm*P0.65mm*; Footprint: Package_SO:TSSOP-28-1EP_4.4x9.7mm_P0.65mm; Datasheet: https://www.analog.com/media/en/technical-documentation/data-sheets/lt8391.pdf
pins: 1 BG1, 2 BST1, 3 SW1, 4 TG1, 5 LSP, 6 LSN, 7 VIN, 8 INTVCC, 9 EN/UVLO, 10 RP, 11 PWM, 12 VREF, 13 CTRL1, 14 ISP, 15 ISN, 16 CTRL2, 17 ~{{FAULT}}, 18 SS, 19 FB, 20 VC, 21 RT, 22 SYNC/SPRD, 23 PWMTG, 24 VOUT, 25 TG2, 26 SW2, 27 BST2, 28 BG2, 29 GND

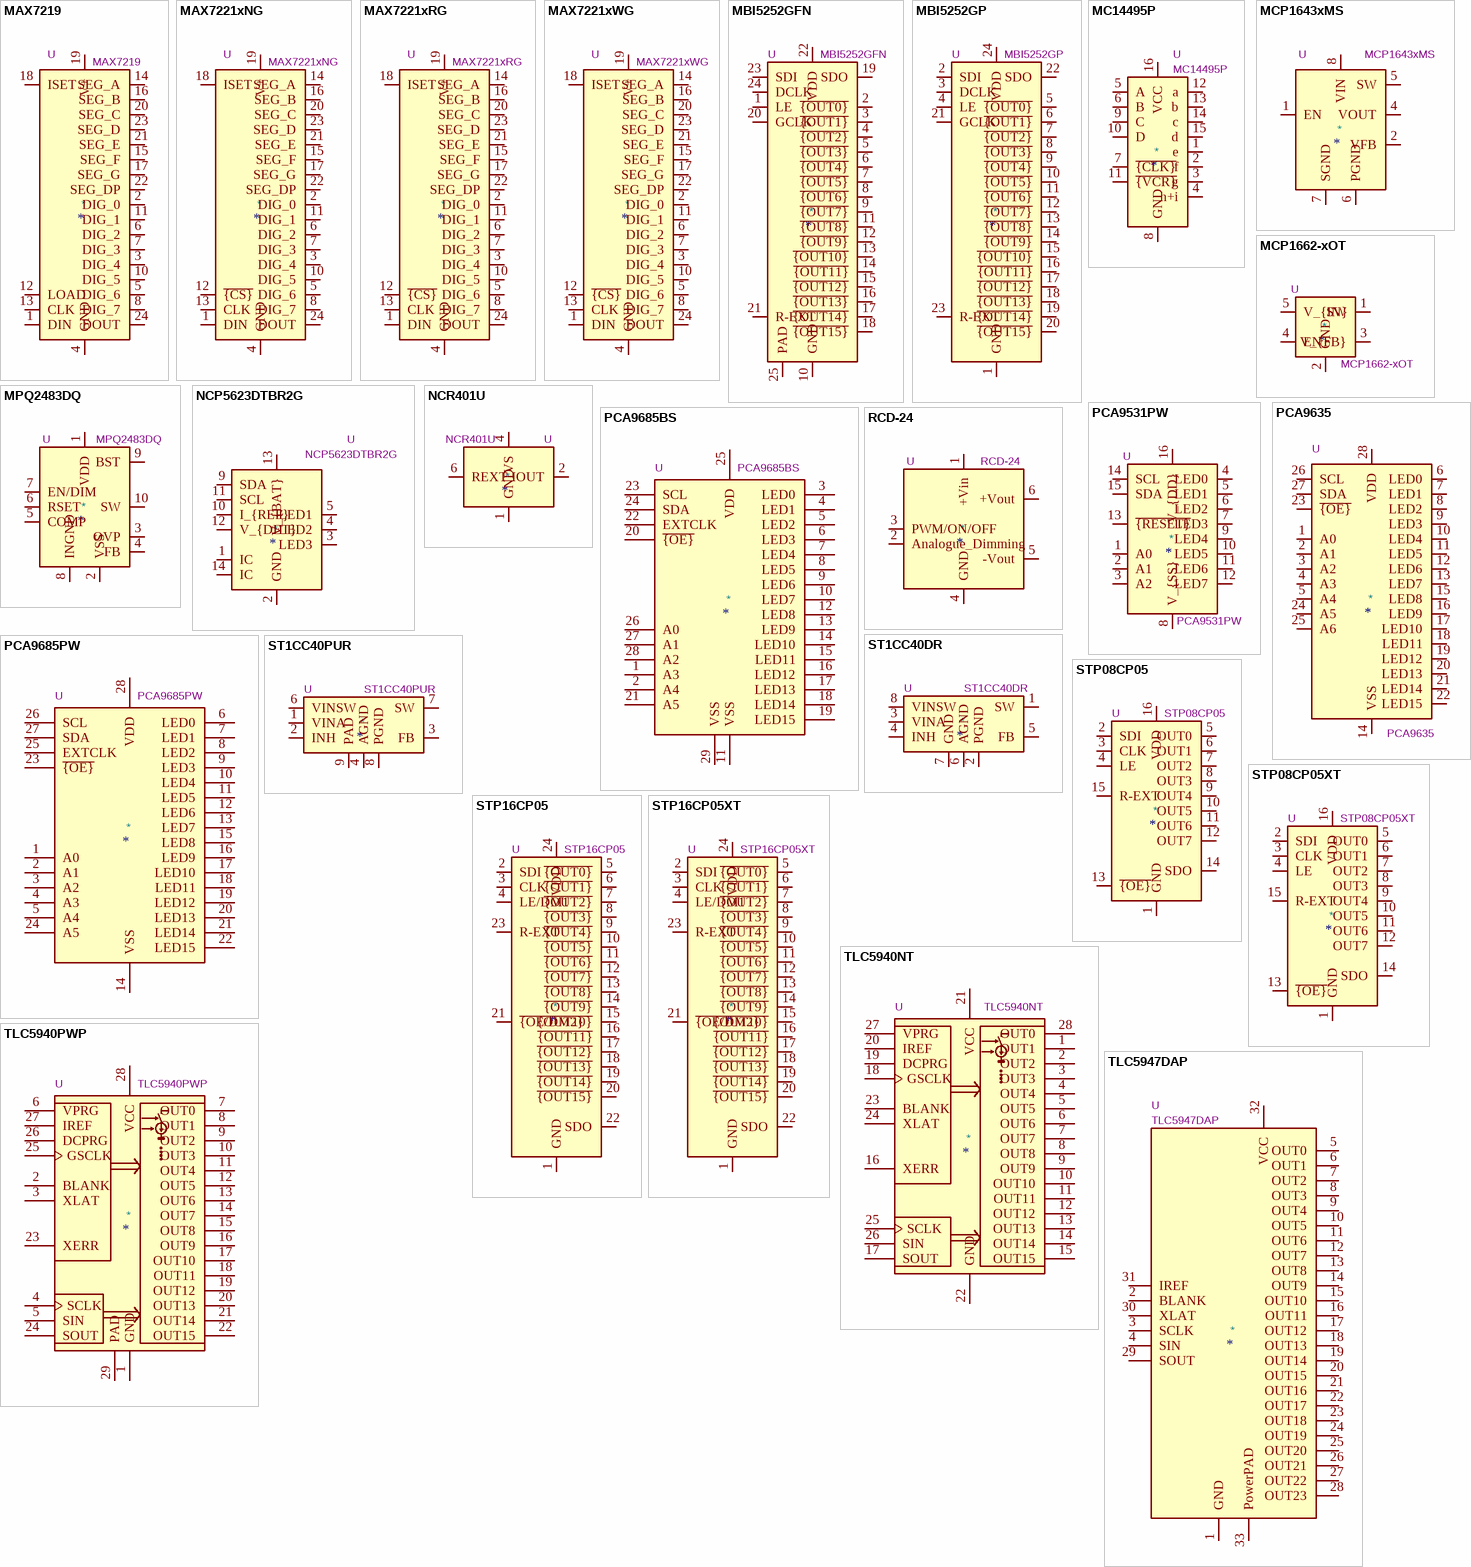
[diagram p2: symbols MAX7219 to TLC5947DAP]

## MAX7219
designator *  value MAX7219  Reference: U
ki_keywords: LED 8-Digit Display Driver; ki_description: 8-Digit LED Display Driver; ki_fp_filters: SOIC*7.5x15.4mm*P1.27mm* DIP*7.62mm*; Datasheet: https://datasheets.maximintegrated.com/en/ds/MAX7219-MAX7221.pdf
pins: 1 DIN, 2 DIG_0, 3 DIG_4, 4 GND, 5 DIG_6, 6 DIG_2, 7 DIG_3, 8 DIG_7, 9 GND hidden, 10 DIG_5, 11 DIG_1, 12 LOAD, 13 CLK, 14 SEG_A, 15 SEG_F, 16 SEG_B, 17 SEG_G, 18 ISET, 19 V+, 20 SEG_C, 21 SEG_E, 22 SEG_DP, 23 SEG_D, 24 DOUT

## MAX7221xNG
designator *  value MAX7221xNG  Reference: U
ki_keywords: spi qspi microwire; ki_description: Serially Interfaced, 8-Digit LED Display Driver, PDIP-24; ki_fp_filters: DIP*W7.62mm*; Footprint: Package_DIP:DIP-24_W7.62mm; Datasheet: https://datasheets.maximintegrated.com/en/ds/MAX7219-MAX7221.pdf
pins: 1 DIN, 2 DIG_0, 3 DIG_4, 4 GND, 5 DIG_6, 6 DIG_2, 7 DIG_3, 8 DIG_7, 9 GND hidden, 10 DIG_5, 11 DIG_1, 12 ~{{CS}}, 13 CLK, 14 SEG_A, 15 SEG_F, 16 SEG_B, 17 SEG_G, 18 ISET, 19 V+, 20 SEG_C, 21 SEG_E, 22 SEG_DP, 23 SEG_D, 24 DOUT

## MAX7221xRG
designator *  value MAX7221xRG  Reference: U
ki_keywords: spi qspi microwire; ki_description: Serially Interfaced, 8-Digit LED Display Driver, CDIP-24; ki_fp_filters: DIP*W7.62mm*; Footprint: Package_DIP:DIP-24_W7.62mm; Datasheet: https://datasheets.maximintegrated.com/en/ds/MAX7219-MAX7221.pdf
pins: 1 DIN, 2 DIG_0, 3 DIG_4, 4 GND, 5 DIG_6, 6 DIG_2, 7 DIG_3, 8 DIG_7, 9 GND hidden, 10 DIG_5, 11 DIG_1, 12 ~{{CS}}, 13 CLK, 14 SEG_A, 15 SEG_F, 16 SEG_B, 17 SEG_G, 18 ISET, 19 V+, 20 SEG_C, 21 SEG_E, 22 SEG_DP, 23 SEG_D, 24 DOUT

## MAX7221xWG
designator *  value MAX7221xWG  Reference: U
ki_keywords: spi qspi microwire; ki_description: Serially Interfaced, 8-Digit LED Display Driver, SOIC-24W; ki_fp_filters: SOIC*7.5x15.4mm*P1.27mm*; Footprint: Package_SO:SOIC-24W_7.5x15.4mm_P1.27mm; Datasheet: https://datasheets.maximintegrated.com/en/ds/MAX7219-MAX7221.pdf
pins: 1 DIN, 2 DIG_0, 3 DIG_4, 4 GND, 5 DIG_6, 6 DIG_2, 7 DIG_3, 8 DIG_7, 9 GND hidden, 10 DIG_5, 11 DIG_1, 12 ~{{CS}}, 13 CLK, 14 SEG_A, 15 SEG_F, 16 SEG_B, 17 SEG_G, 18 ISET, 19 V+, 20 SEG_C, 21 SEG_E, 22 SEG_DP, 23 SEG_D, 24 DOUT

## MBI5252GFN
designator *  value MBI5252GFN  Reference: U
ki_keywords: Shift Register LED driver 16 bit; ki_description: 16-Channel, 14-bit PWM constant current LED sink driver with built-in 8K-bit SRAM, 6-bit current gain, LED open detection, HVQFN-24; ki_fp_filters: *QFN*4x4mm*P0.5mm*2.5x2.5mm*; Footprint: Package_DFN_QFN:HVQFN-24-1EP_4x4mm_P0.5mm_EP2.5x2.5mm; Datasheet: https://datasheet.lcsc.com/lcsc/1809031521_MBI-MBI5252GP-A_C261127.pdf
pins: 1 LE, 2 ~{{OUT0}}, 3 ~{{OUT1}}, 4 ~{{OUT2}}, 5 ~{{OUT3}}, 6 ~{{OUT4}}, 7 ~{{OUT5}}, 8 ~{{OUT6}}, 9 ~{{OUT7}}, 10 GND, 11 ~{{OUT8}}, 12 ~{{OUT9}}, 13 ~{{OUT10}}, 14 ~{{OUT11}}, 15 ~{{OUT12}}, 16 ~{{OUT13}}, 17 ~{{OUT14}}, 18 ~{{OUT15}}, 19 SDO, 20 GCLK, 21 R-EXT, 22 VDD, 23 SDI, 24 DCLK, 25 PAD

## MBI5252GP
designator *  value MBI5252GP  Reference: U
ki_keywords: Shift Register LED driver 16 bit; ki_description: 16-Channel, 14-bit PWM constant current LED sink driver with built-in 8K-bit SRAM, 6-bit current gain, LED open detection, SSOP-24; ki_fp_filters: SSOP*3.9x8.7mm*P0.635mm*; Footprint: Package_SO:SSOP-24_3.9x8.7mm_P0.635mm; Datasheet: https://datasheet.lcsc.com/lcsc/1809031521_MBI-MBI5252GP-A_C261127.pdf
pins: 1 GND, 2 SDI, 3 DCLK, 4 LE, 5 ~{{OUT0}}, 6 ~{{OUT1}}, 7 ~{{OUT2}}, 8 ~{{OUT3}}, 9 ~{{OUT4}}, 10 ~{{OUT5}}, 11 ~{{OUT6}}, 12 ~{{OUT7}}, 13 ~{{OUT8}}, 14 ~{{OUT9}}, 15 ~{{OUT10}}, 16 ~{{OUT11}}, 17 ~{{OUT12}}, 18 ~{{OUT13}}, 19 ~{{OUT14}}, 20 ~{{OUT15}}, 21 GCLK, 22 SDO, 23 R-EXT, 24 VDD

## MC14495P
designator *  value MC14495P  Reference: U
ki_keywords: driver 7-segment; ki_description: C-MOS BCD-TO-SEVEN-SEGMENT 4-BIT LATCH / DECODER DRIVER, DIP-16; ki_fp_filters: DIP?16?W7.62*; Footprint: Package_DIP:DIP-16_W7.62mm; Datasheet: https://www.futurlec.com/Datasheet/Motorola/MC14495.pdf
pins: 1 e, 2 f, 3 g, 4 h+i, 5 A, 6 B, 7 ~{{CLK}}, 8 GND, 9 C, 10 D, 11 ~{{VCR}}, 12 a, 13 b, 14 c, 15 d, 16 VCC

## MCP1643xMS
designator *  value MCP1643xMS  Reference: U
ki_keywords: LED driver low voltage; ki_description: Constant-current LED boost regulator, 0.65V startup, 550mA output, MSOP-8; ki_fp_filters: MSOP*3x3mm*P0.65mm*; Footprint: Package_SO:MSOP-8_3x3mm_P0.65mm; Datasheet: https://ww1.microchip.com/downloads/en/DeviceDoc/20005208A.pdf
pins: 1 EN, 2 VFB, 3 NC hidden, 4 VOUT, 5 SW, 6 PGND, 7 SGND, 8 VIN

## MCP1662-xOT
designator *  value MCP1662-xOT  Reference: U
ki_keywords: step-up led driver uvlo; ki_description: Step-Up LED Driver w/ UVLO and Open Load Protection, 500kHz, SOT-23-5; ki_fp_filters: SOT?23*; Footprint: Package_TO_SOT_SMD:SOT-23-5; Datasheet: https://ww1.microchip.com/downloads/en/DeviceDoc/20005316E.pdf
pins: 1 SW, 2 GND, 3 V_{FB}, 4 EN, 5 V_{IN}

## MPQ2483DQ
designator *  value MPQ2483DQ  Reference: U
ki_keywords: LED driver; ki_description: 55V, 2.5A Programmable Frequency LED Driver, DFN-10; ki_fp_filters: DFN*1EP*3x3mm*P0.5mm*; Footprint: Package_DFN_QFN:DFN-10-1EP_3x3mm_P0.5mm_EP1.7x2.5mm; Datasheet: https://www.monolithicpower.com/pub/media/document/MPQ2483_r1.05.pdf
pins: 1 VDD, 2 VSS, 3 OVP, 4 FB, 5 COMP, 6 RSET, 7 EN/DIM, 8 INGND, 9 BST, 10 SW, 11 VSS hidden

## NCP5623DTBR2G
designator *  value NCP5623DTBR2G  Reference: U
ki_keywords: LED RGB; ki_description: Triple Output I2C Controlled RGB LED Driver, TSSOP-14; ki_fp_filters: TSSOP*4.4x5mm*P0.65mm*; Footprint: Package_SO:TSSOP-14_4.4x5mm_P0.65mm; Datasheet: https://www.onsemi.com/pub/Collateral/NCP5623-D.PDF
pins: 1 IC, 2 GND, 3 LED3, 4 LED2, 5 LED1, 6 GND hidden, 7 NC hidden, 8 NC hidden, 9 SDA, 10 I_{REF}, 11 SCL, 12 V_{DET}, 13 V_{BAT}, 14 IC

## NCR401U
designator *  value NCR401U  Reference: U
ki_keywords: LED driver constant current; ki_description: 10mA (with external R up to 65mA) constant current driver (linear), max 40V, SOT457 (SC-74); ki_fp_filters: SC?74*1.5x2.9mm?P0.95*; Footprint: Package_SO:SC-74-6_1.5x2.9mm_P0.95mm; Datasheet: https://assets.nexperia.com/documents/data-sheet/NCR401U.pdf
pins: 1 GND, 2 IOUT, 3 IOUT hidden, 4 VS, 5 IOUT hidden, 6 REXT

## PCA9531PW
designator *  value PCA9531PW  Reference: U
ki_keywords: led pwm rgb smbus; ki_description: 8-bit PWM I2C eight LED driver, TSSOP-16; ki_fp_filters: TSSOP*4.4x5mm*P0.65mm*; Footprint: Package_SO:TSSOP-16_4.4x5mm_P0.65mm; Datasheet: https://www.nxp.com/docs/en/data-sheet/PCA9531.pdf
pins: 1 A0, 2 A1, 3 A2, 4 LED0, 5 LED1, 6 LED2, 7 LED3, 8 V_{SS}, 9 LED4, 10 LED5, 11 LED6, 12 LED7, 13 ~{{RESET}}, 14 SCL, 15 SDA, 16 V_{DD}

## PCA9635
designator *  value PCA9635  Reference: U
ki_keywords: led pwm rgb rgba; ki_description: 16-bit PWM Fm+ I2C-bus LED driver, TSSOP-28; ki_fp_filters: TSSOP*4.4x9.7mm*P0.65mm*; Footprint: Package_SO:TSSOP-28_4.4x9.7mm_P0.65mm; Datasheet: https://www.nxp.com/docs/en/data-sheet/PCA9635.pdf
pins: 1 A0, 2 A1, 3 A2, 4 A3, 5 A4, 6 LED0, 7 LED1, 8 LED2, 9 LED3, 10 LED4, 11 LED5, 12 LED6, 13 LED7, 14 VSS, 15 LED8, 16 LED9, 17 LED10, 18 LED11, 19 LED12, 20 LED13, 21 LED14, 22 LED15, 23 ~{{OE}}, 24 A5, 25 A6, 26 SCL, 27 SDA, 28 VDD

## PCA9685BS
designator *  value PCA9685BS  Reference: U
ki_keywords: PWM LED driver I2C QFN; ki_description: 16-channel 12-bit PWM Fm+ I2C-bus LED controller RGBA QFN; ki_fp_filters: QFN*1EP*6x6mm*P0.65mm*; Footprint: Package_DFN_QFN:QFN-28-1EP_6x6mm_P0.65mm_EP4.25x4.25mm; Datasheet: http://www.nxp.com/docs/en/data-sheet/PCA9685.pdf
pins: 1 A3, 2 A4, 3 LED0, 4 LED1, 5 LED2, 6 LED3, 7 LED4, 8 LED5, 9 LED6, 10 LED7, 11 VSS, 12 LED8, 13 LED9, 14 LED10, 15 LED11, 16 LED12, 17 LED13, 18 LED14, 19 LED15, 20 ~{{OE}}, 21 A5, 22 EXTCLK, 23 SCL, 24 SDA, 25 VDD, 26 A0, 27 A1, 28 A2, 29 VSS

## PCA9685PW
designator *  value PCA9685PW  Reference: U
ki_keywords: PWM LED driver I2C TSSOP; ki_description: 16-channel 12-bit PWM Fm+ I2C-bus LED controller RGBA TSSOP; ki_fp_filters: TSSOP*4.4x9.7mm*P0.65mm*; Footprint: Package_SO:TSSOP-28_4.4x9.7mm_P0.65mm; Datasheet: http://www.nxp.com/docs/en/data-sheet/PCA9685.pdf
pins: 1 A0, 2 A1, 3 A2, 4 A3, 5 A4, 6 LED0, 7 LED1, 8 LED2, 9 LED3, 10 LED4, 11 LED5, 12 LED6, 13 LED7, 14 VSS, 15 LED8, 16 LED9, 17 LED10, 18 LED11, 19 LED12, 20 LED13, 21 LED14, 22 LED15, 23 ~{{OE}}, 24 A5, 25 EXTCLK, 26 SCL, 27 SDA, 28 VDD

## RCD-24
designator *  value RCD-24  Reference: U
ki_keywords: Led Driver DC-DC; ki_description: LED Driver DC/DC Converter, input 4.5 to 36V, output current 0.3 to 1.2A; ki_fp_filters: Converter*DCDC*RECOM*RCD?24*; Footprint: Converter_DCDC:Converter_DCDC_RECOM_RCD-24_THT; Datasheet: https://g.recomcdn.com/media/Datasheet/pdf/.fYUQjOlW/.t2a80a771bdbb0ef300f7/Datasheet-93/RCD-24.pdf
pins: 1 +Vin, 2 Analogue_Dimming, 3 PWM/ON/OFF, 4 GND, 5 -Vout, 6 +Vout

## ST1CC40DR
designator *  value ST1CC40DR  Reference: U
ki_keywords: DC/DC Buck Conwerter 3A Low Voltage Input LED Lighting; ki_description: 3A monolithic step-down current source with synchronous rectification, 3-18V Input Voltage, 850kHz, SO-8; ki_fp_filters: SOIC*3.9x4.9mm*P1.27mm*; Footprint: Package_SO:SOIC-8_3.9x4.9mm_P1.27mm; Datasheet: http://www.st.com/content/ccc/resource/technical/document/datasheet/group3/71/e8/26/3c/c8/cc/46/e6/CD00292360/files/CD00292360.pdf/jcr:content/translations/en.CD00292360.pdf
pins: 1 SW, 2 PGND, 3 VINA, 4 INH, 5 FB, 6 AGND, 7 GND, 8 VINSW

## ST1CC40PUR
designator *  value ST1CC40PUR  Reference: U
ki_keywords: DC/DC Buck Conwerter 3A Low Voltage Input LED Lighting; ki_description: 3A monolithic step-down current source with synchronous rectification, 3-18V Input Voltage, 850kHz, DFN-8; ki_fp_filters: DFN*1EP*4x4mm*P0.8mm*; Footprint: Package_DFN_QFN:DFN-8-1EP_4x4mm_P0.8mm_EP2.5x3.6mm; Datasheet: http://www.st.com/content/ccc/resource/technical/document/datasheet/group3/71/e8/26/3c/c8/cc/46/e6/CD00292360/files/CD00292360.pdf/jcr:content/translations/en.CD00292360.pdf
pins: 1 VINA, 2 INH, 3 FB, 4 AGND, 5 NC hidden, 6 VINSW, 7 SW, 8 PGND, 9 PAD

## STP08CP05
designator *  value STP08CP05  Reference: U
ki_keywords: Shift Register LED driver 8 bit; ki_description: 8-bit constant current LED sink driver; ki_fp_filters: SOIC*3.9x9.9mm*P1.27mm* TSSOP*4.4x5mm*P0.65mm* DIP*W7.62mm*; Datasheet: https://www.st.com/resource/en/datasheet/stp08cp05.pdf
pins: 1 GND, 2 SDI, 3 CLK, 4 LE, 5 OUT0, 6 OUT1, 7 OUT2, 8 OUT3, 9 OUT4, 10 OUT5, 11 OUT6, 12 OUT7, 13 ~{{OE}}, 14 SDO, 15 R-EXT, 16 VDD

## STP08CP05XT
designator *  value STP08CP05XT  Reference: U
ki_keywords: Shift Register LED driver 8 bit; ki_description: 8-bit constant current LED sink driver, HTSSOP-16; ki_fp_filters: HTSSOP*1EP*4.4x5mm*P0.65mm*; Footprint: Package_SO:HTSSOP-16-1EP_4.4x5mm_P0.65mm_EP3x3mm; Datasheet: https://www.st.com/resource/en/datasheet/stp08cp05.pdf
pins: 1 GND, 2 SDI, 3 CLK, 4 LE, 5 OUT0, 6 OUT1, 7 OUT2, 8 OUT3, 9 OUT4, 10 OUT5, 11 OUT6, 12 OUT7, 13 ~{{OE}}, 14 SDO, 15 R-EXT, 16 VDD, 17 GND hidden

## STP16CP05
designator *  value STP16CP05  Reference: U
ki_keywords: Shift Register LED driver 16 bit; ki_description: 16-bit constant current LED sink driver; ki_fp_filters: QSOP*3.9x8.7mm*P0.635mm* SOIC*7.5x15.4mm*P1.27mm* TSSOP*4.4x7.8mm*P0.65mm*; Datasheet: https://www.st.com/resource/en/datasheet/stp16cp05.pdf
pins: 1 GND, 2 SDI, 3 CLK, 4 LE/DM1, 5 ~{{OUT0}}, 6 ~{{OUT1}}, 7 ~{{OUT2}}, 8 ~{{OUT3}}, 9 ~{{OUT4}}, 10 ~{{OUT5}}, 11 ~{{OUT6}}, 12 ~{{OUT7}}, 13 ~{{OUT8}}, 14 ~{{OUT9}}, 15 ~{{OUT10}}, 16 ~{{OUT11}}, 17 ~{{OUT12}}, 18 ~{{OUT13}}, 19 ~{{OUT14}}, 20 ~{{OUT15}}, 21 ~{{OE/DM2}}, 22 SDO, 23 R-EXT, 24 VDD

## STP16CP05XT
designator *  value STP16CP05XT  Reference: U
ki_keywords: Shift Register LED driver 16 bit; ki_description: 16-bit constant current LED sink driver, HTSSOP-24; ki_fp_filters: HTSSOP*1EP*4.4x7.8mm*P0.65mm*; Footprint: Package_SO:HTSSOP-24-1EP_4.4x7.8mm_P0.65mm_EP3.2x5mm; Datasheet: https://www.st.com/resource/en/datasheet/stp16cp05.pdf
pins: 1 GND, 2 SDI, 3 CLK, 4 LE/DM1, 5 ~{{OUT0}}, 6 ~{{OUT1}}, 7 ~{{OUT2}}, 8 ~{{OUT3}}, 9 ~{{OUT4}}, 10 ~{{OUT5}}, 11 ~{{OUT6}}, 12 ~{{OUT7}}, 13 ~{{OUT8}}, 14 ~{{OUT9}}, 15 ~{{OUT10}}, 16 ~{{OUT11}}, 17 ~{{OUT12}}, 18 ~{{OUT13}}, 19 ~{{OUT14}}, 20 ~{{OUT15}}, 21 ~{{OE/DM2}}, 22 SDO, 23 R-EXT, 24 VDD, 25 GND hidden

## TLC5940NT
designator *  value TLC5940NT  Reference: U
ki_keywords: PWM LED driver; ki_description: 16-Channel LED Driver With DOT Correction and Grayscale PWM Control, DIP package; ki_fp_filters: DIP*W7.62mm*; Footprint: Package_DIP:DIP-28_W7.62mm; Datasheet: http://www.ti.com/lit/ds/symlink/tlc5940.pdf
pins: 1 OUT1, 2 OUT2, 3 OUT3, 4 OUT4, 5 OUT5, 6 OUT6, 7 OUT7, 8 OUT8, 9 OUT9, 10 OUT10, 11 OUT11, 12 OUT12, 13 OUT13, 14 OUT14, 15 OUT15, 16 XERR, 17 SOUT, 18 GSCLK, 19 DCPRG, 20 IREF, 21 VCC, 22 GND, 23 BLANK, 24 XLAT, 25 SCLK, 26 SIN, 27 VPRG, 28 OUT0

## TLC5940PWP
designator *  value TLC5940PWP  Reference: U
ki_keywords: PWM LED driver; ki_description: 16-Channel LED Driver With DOT Correction and Grayscale PWM Control, TSSOP package with thermal pad; ki_fp_filters: HTSSOP*4.4x9.7mm*P0.65mm*; Footprint: Package_SO:HTSSOP-28-1EP_4.4x9.7mm_P0.65mm_EP3.4x9.5mm_Mask2.4x6.17mm_ThermalVias; Datasheet: http://www.ti.com/lit/ds/symlink/tlc5940.pdf
pins: 1 GND, 2 BLANK, 3 XLAT, 4 SCLK, 5 SIN, 6 VPRG, 7 OUT0, 8 OUT1, 9 OUT2, 10 OUT3, 11 OUT4, 12 OUT5, 13 OUT6, 14 OUT7, 15 OUT8, 16 OUT9, 17 OUT10, 18 OUT11, 19 OUT12, 20 OUT13, 21 OUT14, 22 OUT15, 23 XERR, 24 SOUT, 25 GSCLK, 26 DCPRG, 27 IREF, 28 VCC, 29 PAD

## TLC5947DAP
designator *  value TLC5947DAP  Reference: U
ki_keywords: PWM LED driver HTSSOP; ki_description: 24-Channel, 12-Bit PWM LED Driver, HTSSOP; ki_fp_filters: HTSSOP*; Footprint: Package_SO:HTSSOP-32-1EP_6.1x11mm_P0.65mm_EP5.2x11mm_Mask4.11x4.36mm_ThermalVias; Datasheet: http://www.ti.com/lit/ds/symlink/tlc5947.pdf
pins: 1 GND, 2 BLANK, 3 SCLK, 4 SIN, 5 OUT0, 6 OUT1, 7 OUT2, 8 OUT3, 9 OUT4, 10 OUT5, 11 OUT6, 12 OUT7, 13 OUT8, 14 OUT9, 15 OUT10, 16 OUT11, 17 OUT12, 18 OUT13, 19 OUT14, 20 OUT15, 21 OUT16, 22 OUT17, 23 OUT18, 24 OUT19, 25 OUT20, 26 OUT21, 27 OUT22, 28 OUT23, 29 SOUT, 30 XLAT, 31 IREF, 32 VCC, 33 PowerPAD

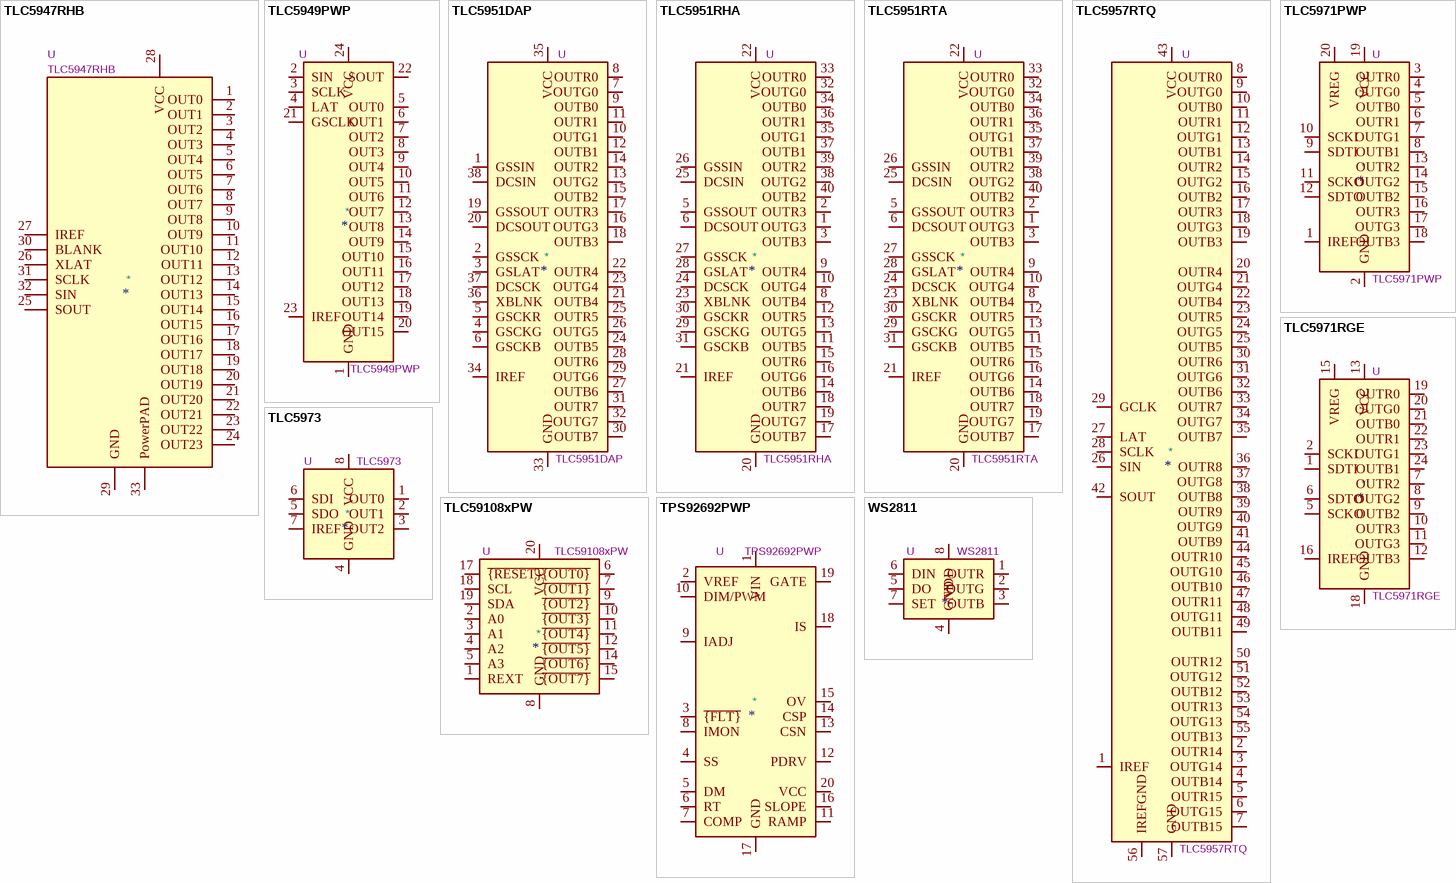
[diagram p3: symbols TLC5947RHB to WS2811]

## TLC5947RHB
designator *  value TLC5947RHB  Reference: U
ki_keywords: PWM LED driver QFN; ki_description: 24-Channel, 12-Bit PWM LED Driver, QFN; ki_fp_filters: QFN*5x5mm*; Footprint: Package_DFN_QFN:QFN-32-1EP_5x5mm_P0.5mm_EP3.45x3.45mm; Datasheet: http://www.ti.com/lit/ds/symlink/tlc5947.pdf
pins: 1 OUT0, 2 OUT1, 3 OUT2, 4 OUT3, 5 OUT4, 6 OUT5, 7 OUT6, 8 OUT7, 9 OUT8, 10 OUT9, 11 OUT10, 12 OUT11, 13 OUT12, 14 OUT13, 15 OUT14, 16 OUT15, 17 OUT16, 18 OUT17, 19 OUT18, 20 OUT19, 21 OUT20, 22 OUT21, 23 OUT22, 24 OUT23, 25 SOUT, 26 XLAT, 27 IREF, 28 VCC, 29 GND, 30 BLANK, 31 SCLK, 32 SIN, 33 PowerPAD

## TLC5949PWP
designator *  value TLC5949PWP  Reference: U
ki_keywords: led driver; ki_description: 16-channel, 12bit ES-PWM, constant-current sink LED driver, HTSSOP-24; ki_fp_filters: HTSSOP*4.4x7.8mm*P0.65mm*; Footprint: Package_SO:HTSSOP-24-1EP_4.4x7.8mm_P0.65mm_EP3.4x7.8mm_Mask2.4x2.98mm; Datasheet: https://www.ti.com/lit/ds/symlink/tlc5949.pdf
pins: 1 GND, 2 SIN, 3 SCLK, 4 LAT, 5 OUT0, 6 OUT1, 7 OUT2, 8 OUT3, 9 OUT4, 10 OUT5, 11 OUT6, 12 OUT7, 13 OUT8, 14 OUT9, 15 OUT10, 16 OUT11, 17 OUT12, 18 OUT13, 19 OUT14, 20 OUT15, 21 GSCLK, 22 SOUT, 23 IREF, 24 VCC, 25 GND hidden

## TLC5951DAP
designator *  value TLC5951DAP  Reference: U
ki_keywords: led driver; ki_description: 24-Channel, 12-Bit PWM LED Driver With 7-Bit Dot Correction and 3-Group, 8-Bit Global Brightness Control, HTSSOP-38; ki_fp_filters: HTSSOP*1EP*6.1x12.5mm*P0.65mm*; Footprint: Package_SO:HTSSOP-38-1EP_6.1x12.5mm_P0.65mm_EP5.2x12.5mm_Mask3.39x6.35mm_ThermalVias; Datasheet: http://www.ti.com/lit/ds/symlink/tlc5951.pdf
pins: 1 GSSIN, 2 GSSCK, 3 GSLAT, 4 GSCKG, 5 GSCKR, 6 GSCKB, 7 OUTG0, 8 OUTR0, 9 OUTB0, 10 OUTG1, 11 OUTR1, 12 OUTB1, 13 OUTG2, 14 OUTR2, 15 OUTB2, 16 OUTG3, 17 OUTR3, 18 OUTB3, 19 GSSOUT, 20 DCSOUT, 21 OUTB4, 22 OUTR4, 23 OUTG4, 24 OUTB5, 25 OUTR5, 26 OUTG5, 27 OUTB6, 28 OUTR6, 29 OUTG6, 30 OUTB7, 31 OUTR7, 32 OUTG7, 33 GND, 34 IREF, 35 VCC, 36 XBLNK, 37 DCSCK, 38 DCSIN, 39 GND hidden

## TLC5951RHA
designator *  value TLC5951RHA  Reference: U
ki_keywords: led driver; ki_description: 24-Channel, 12-Bit PWM LED Driver With 7-Bit Dot Correction and 3-Group, 8-Bit Global Brightness Control, Texas S-PVQFN-N40; ki_fp_filters: Texas*S*PVQFN*; Footprint: Package_DFN_QFN:Texas_S-PVQFN-N40_EP4.15x4.15mm_ThermalVias; Datasheet: http://www.ti.com/lit/ds/symlink/tlc5951.pdf
pins: 1 OUTG3, 2 OUTR3, 3 OUTB3, 4 NC hidden, 5 GSSOUT, 6 DCSOUT, 7 NC hidden, 8 OUTB4, 9 OUTR4, 10 OUTG4, 11 OUTB5, 12 OUTR5, 13 OUTG5, 14 OUTB6, 15 OUTR6, 16 OUTG6, 17 OUTB7, 18 OUTR7, 19 OUTG7, 20 GND, 21 IREF, 22 VCC, 23 XBLNK, 24 DCSCK, 25 DCSIN, 26 GSSIN, 27 GSSCK, 28 GSLAT, 29 GSCKG, 30 GSCKR, 31 GSCKB, 32 OUTG0, 33 OUTR0, 34 OUTB0, 35 OUTG1, 36 OUTR1, 37 OUTB1, 38 OUTG2, 39 OUTR2, 40 OUTB2, 41 GND hidden

## TLC5951RTA
designator *  value TLC5951RTA  Reference: U
ki_keywords: led driver; ki_description: 24-Channel, 12-Bit PWM LED Driver With 7-Bit Dot Correction and 3-Group, 8-Bit Global Brightness Control, Texas S-PVQFN-N40; ki_fp_filters: Texas*S*PVQFN*; Footprint: Package_DFN_QFN:Texas_S-PVQFN-N40_EP4.15x4.15mm_ThermalVias; Datasheet: http://www.ti.com/lit/ds/symlink/tlc5951.pdf
pins: 1 OUTG3, 2 OUTR3, 3 OUTB3, 4 NC hidden, 5 GSSOUT, 6 DCSOUT, 7 NC hidden, 8 OUTB4, 9 OUTR4, 10 OUTG4, 11 OUTB5, 12 OUTR5, 13 OUTG5, 14 OUTB6, 15 OUTR6, 16 OUTG6, 17 OUTB7, 18 OUTR7, 19 OUTG7, 20 GND, 21 IREF, 22 VCC, 23 XBLNK, 24 DCSCK, 25 DCSIN, 26 GSSIN, 27 GSSCK, 28 GSLAT, 29 GSCKG, 30 GSCKR, 31 GSCKB, 32 OUTG0, 33 OUTR0, 34 OUTB0, 35 OUTG1, 36 OUTR1, 37 OUTB1, 38 OUTG2, 39 OUTR2, 40 OUTB2, 41 GND hidden

## TLC5957RTQ
designator *  value TLC5957RTQ  Reference: U
ki_keywords: led driver; ki_description: 48-channel, 16bit ES-PWM LED driver with Pre-charge FET, LED OPEN Detection and Caterpillar Cancelling, QFN-56; ki_fp_filters: QFN*1EP*8x8mm*P0.5mm*; Footprint: Package_DFN_QFN:QFN-56-1EP_8x8mm_P0.5mm_EP5.6x5.6mm_ThermalVias; Datasheet: http://www.ti.com/lit/ds/symlink/tlc5957.pdf
pins: 1 IREF, 2 OUTR14, 3 OUTG14, 4 OUTB14, 5 OUTR15, 6 OUTG15, 7 OUTB15, 8 OUTR0, 9 OUTG0, 10 OUTB0, 11 OUTR1, 12 OUTG1, 13 OUTB1, 14 OUTR2, 15 OUTG2, 16 OUTB2, 17 OUTR3, 18 OUTG3, 19 OUTB3, 20 OUTR4, 21 OUTG4, 22 OUTB4, 23 OUTR5, 24 OUTG5, 25 OUTB5, 26 SIN, 27 LAT, 28 SCLK, 29 GCLK, 30 OUTR6, 31 OUTG6, 32 OUTB6, 33 OUTR7, 34 OUTG7, 35 OUTB7, 36 OUTR8, 37 OUTG8, 38 OUTB8, 39 OUTR9, 40 OUTG9, 41 OUTB9, 42 SOUT, 43 VCC, 44 OUTR10, 45 OUTG10, 46 OUTB10, 47 OUTR11, 48 OUTG11, 49 OUTB11, 50 OUTR12, 51 OUTG12, 52 OUTB12, 53 OUTR13, 54 OUTG13, 55 OUTB13, 56 IREFGND, 57 GND

## TLC5971PWP
designator *  value TLC5971PWP  Reference: U
ki_keywords: led driver; ki_description: 12-Channel, 16-Bit, Enhanced Spectrum, PWM, RGB, LED Driver With 3.3-V Linear Regulator, HTSSOP-20; ki_fp_filters: HTSSOP*1EP*4.4x6.5mm*P0.65mm*; Footprint: Package_SO:HTSSOP-20-1EP_4.4x6.5mm_P0.65mm_EP3.4x6.5mm_Mask2.75x3.43mm_ThermalVias; Datasheet: http://www.ti.com/lit/ds/symlink/tlc5971.pdf
pins: 1 IREF, 2 GND, 3 OUTR0, 4 OUTG0, 5 OUTB0, 6 OUTR1, 7 OUTG1, 8 OUTB1, 9 SDTI, 10 SCKI, 11 SCKO, 12 SDTO, 13 OUTR2, 14 OUTG2, 15 OUTB2, 16 OUTR3, 17 OUTG3, 18 OUTB3, 19 VCC, 20 VREG, 21 GND hidden

## TLC5971RGE
designator *  value TLC5971RGE  Reference: U
ki_keywords: led driver; ki_description: 12-Channel, 16-Bit, Enhanced Spectrum, PWM, RGB, LED Driver With 3.3-V Linear Regulator, VQFN-24; ki_fp_filters: Texas*RGE0024H*; Footprint: Package_DFN_QFN:Texas_RGE0024H_EP2.7x2.7mm_ThermalVias; Datasheet: http://www.ti.com/lit/ds/symlink/tlc5971.pdf
pins: 1 SDTI, 2 SCKI, 3 NC hidden, 4 NC hidden, 5 SCKO, 6 SDTO, 7 OUTR2, 8 OUTG2, 9 OUTB2, 10 OUTR3, 11 OUTG3, 12 OUTB3, 13 VCC, 14 NC hidden, 15 VREG, 16 IREF, 17 NC hidden, 18 GND, 19 OUTR0, 20 OUTG0, 21 OUTB0, 22 OUTR1, 23 OUTG1, 24 OUTB1, 25 GND hidden

## TLC5973
designator *  value TLC5973  Reference: U
ki_keywords: LED current driver 12bit PWM; ki_description: 3 Channel 12bit PWM constant currend LED Driver with single wire interface; ki_fp_filters: SOIC*3.9x4.9mm*P1.27mm*; Footprint: Package_SO:SOIC-8_3.9x4.9mm_P1.27mm; Datasheet: http://www.ti.com/lit/ds/symlink/tlc5973.pdf
pins: 1 OUT0, 2 OUT1, 3 OUT2, 4 GND, 5 SDO, 6 SDI, 7 IREF, 8 VCC

## TLC59108xPW
designator *  value TLC59108xPW  Reference: U
ki_keywords: LED current driver; ki_description: 8-Channel, 8-Bit Fm+ I2C-Bus Constant-Current LED Sink Driver, TSSOP-20; ki_fp_filters: TSSOP*4.4x6.5mm*P0.65mm*; Footprint: Package_SO:TSSOP-20_4.4x6.5mm_P0.65mm; Datasheet: https://www.ti.com/lit/ds/symlink/tlc59108.pdf
pins: 1 REXT, 2 A0, 3 A1, 4 A2, 5 A3, 6 ~{{OUT0}}, 7 ~{{OUT1}}, 8 GND, 9 ~{{OUT2}}, 10 ~{{OUT3}}, 11 ~{{OUT4}}, 12 ~{{OUT5}}, 13 GND hidden, 14 ~{{OUT6}}, 15 ~{{OUT7}}, 16 GND hidden, 17 ~{{RESET}}, 18 SCL, 19 SDA, 20 VCC